# Altium schematic symbol library Audio.SchLib: 119 symbols (part 1 of 2)
Pins are listed as number, name and electrical type; pins without a type are passive.

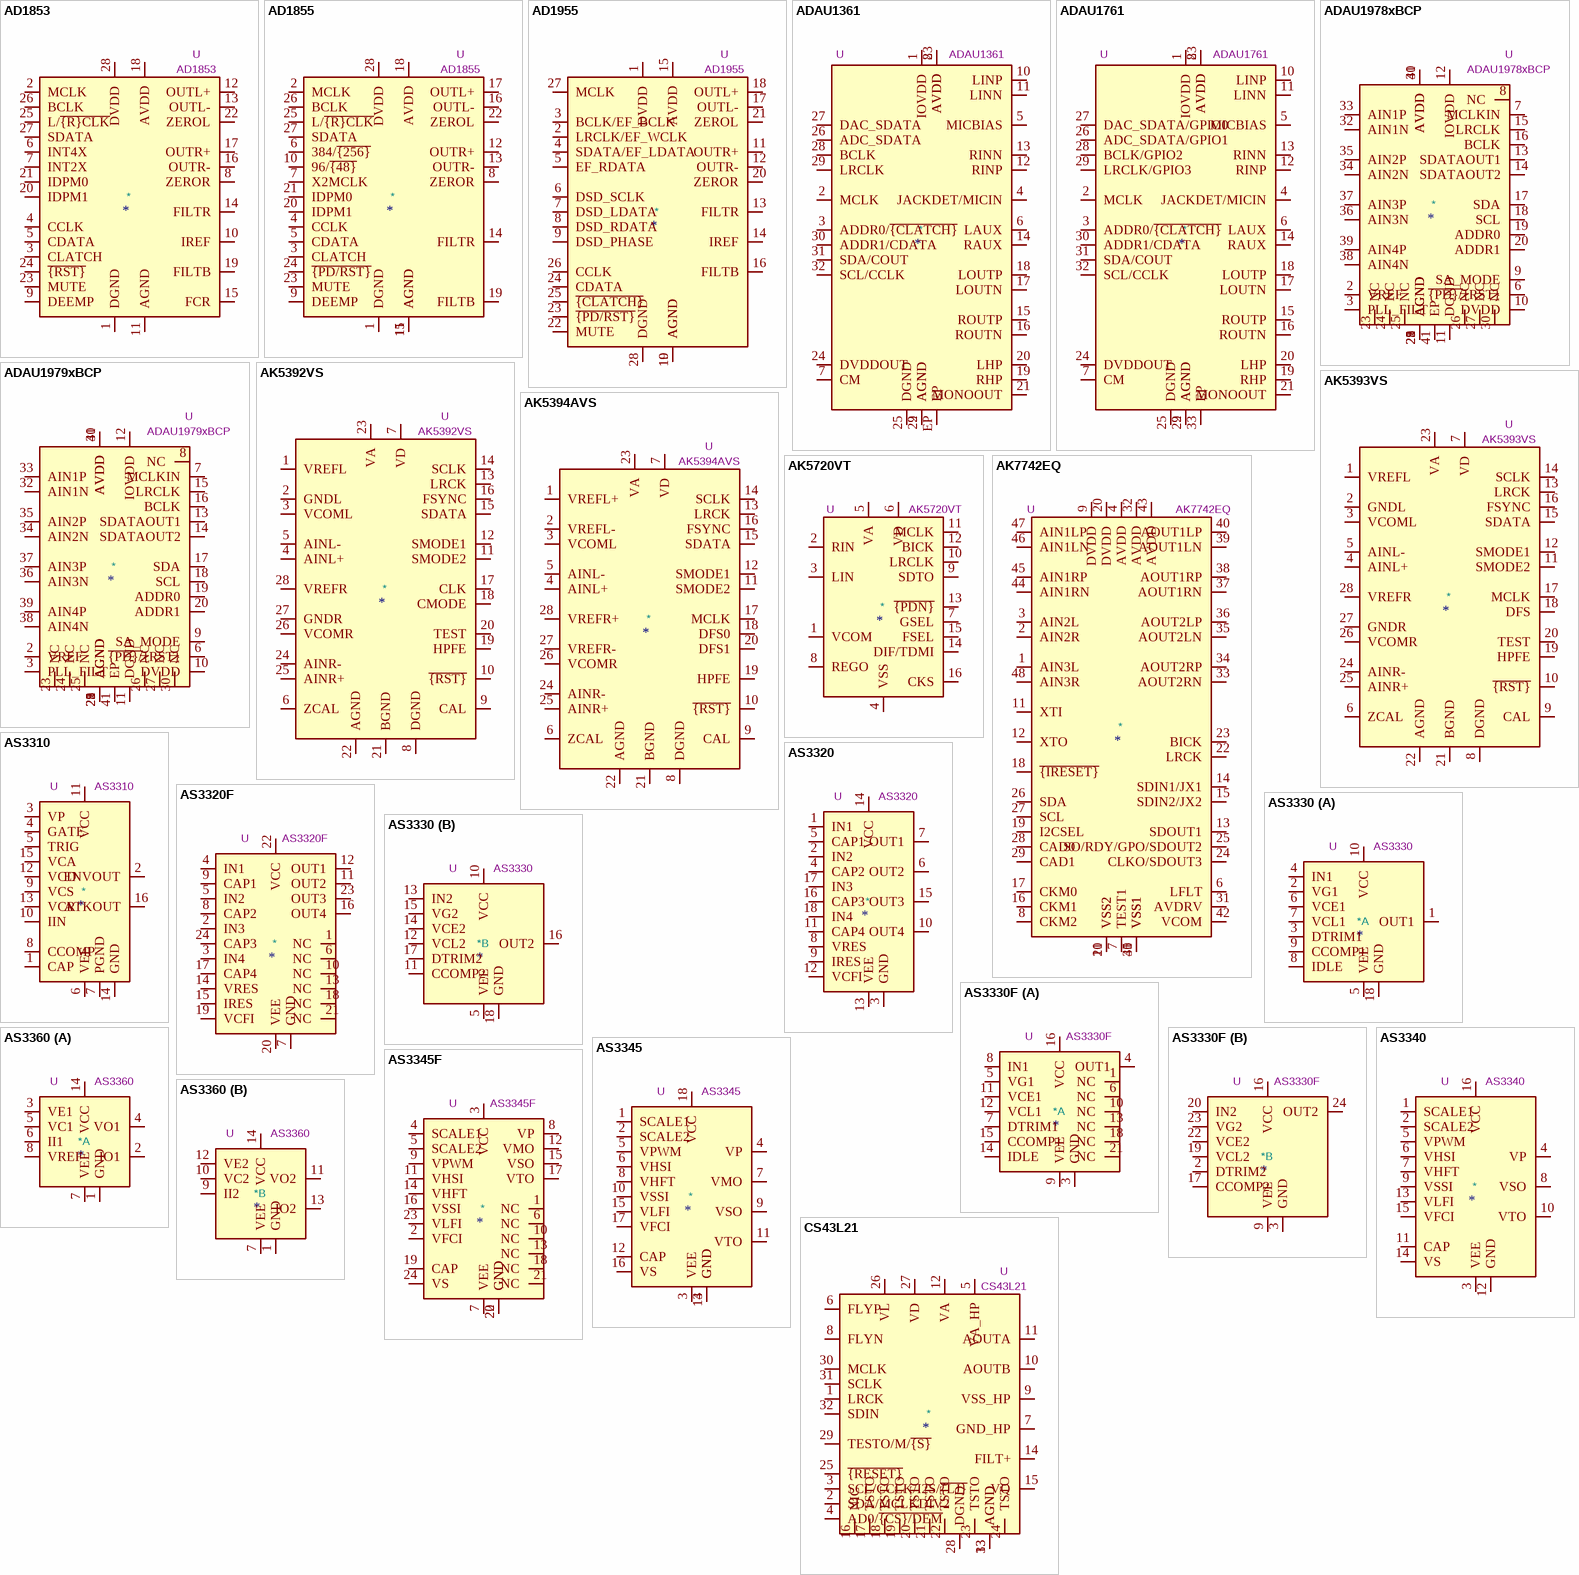
[diagram p0: symbols AD1853 to CS43L21]

## AD1853
designator *  value AD1853  Reference: U
Stereo, 24-Bit, 192 kHz, Multibit Sigma-Delta DAC, SSOP-28; ki_keywords: audio dac 2ch 24bit 192kHz; ki_fp_filters: SSOP*5.3x10.2mm*P0.65mm*; Footprint: Package_SO:SSOP-28_5.3x10.2mm_P0.65mm; Datasheet: https://www.analog.com/media/en/technical-documentation/data-sheets/AD1853.pdf; Description_: Stereo, 24-Bit, 192 kHz, Multibit Sigma-Delta DAC, SSOP-28
pins: 1 DGND, 2 MCLK, 3 CLATCH, 4 CCLK, 5 CDATA, 6 INT4X, 7 INT2X, 8 ZEROR, 9 DEEMP, 10 IREF, 11 AGND, 12 OUTL+, 13 OUTL-, 14 FILTR, 15 FCR, 16 OUTR-, 17 OUTR+, 18 AVDD, 19 FILTB, 20 IDPM1, 21 IDPM0, 22 ZEROL, 23 MUTE, 24 ~{{RST}}, 25 L/~{{R}CLK}, 26 BCLK, 27 SDATA, 28 DVDD

## AD1855
designator *  value AD1855  Reference: U
Stereo, 96 kHz, Multibit Sigma-Delta DAC, SSOP-28; ki_keywords: audio dac 2ch 24bit 96kHz; ki_fp_filters: SSOP*5.3x10.2mm*P0.65mm*; Footprint: Package_SO:SSOP-28_5.3x10.2mm_P0.65mm; Datasheet: https://www.analog.com/media/en/technical-documentation/data-sheets/AD1855.pdf; Description_: Stereo, 96 kHz, Multibit Sigma-Delta DAC, SSOP-28
pins: 1 DGND, 2 MCLK, 3 CLATCH, 4 CCLK, 5 CDATA, 6 384/~{{256}}, 7 X2MCLK, 8 ZEROR, 9 DEEMP, 10 96/~{{48}}, 11 AGND, 12 OUTR+, 13 OUTR-, 14 FILTR, 15 AGND, 16 OUTL-, 17 OUTL+, 18 AVDD, 19 FILTB, 20 IDPM1, 21 IDPM0, 22 ZEROL, 23 MUTE, 24 ~{{PD/RST}}, 25 L/~{{R}CLK}, 26 BCLK, 27 SDATA, 28 DVDD

## AD1955
designator *  value AD1955  Reference: U
High Performance Multibit Sigma-Delta DAC with SACD Playback, SSOP-28; ki_keywords: audio dac 2ch 24bit 192kHz; ki_fp_filters: SSOP*5.3x10.2mm*P0.65mm*; Footprint: Package_SO:SSOP-28_5.3x10.2mm_P0.65mm; Datasheet: https://www.analog.com/media/en/technical-documentation/data-sheets/AD1955.pdf; Description_: High Performance Multibit Sigma-Delta DAC with SACD Playback, SSOP-28
pins: 1 DVDD, 2 LRCLK/EF_WCLK, 3 BCLK/EF_BCLK, 4 SDATA/EF_LDATA, 5 EF_RDATA, 6 DSD_SCLK, 7 DSD_LDATA, 8 DSD_RDATA, 9 DSD_PHASE, 10 AGND, 11 OUTR+, 12 OUTR-, 13 FILTR, 14 IREF, 15 AVDD, 16 FILTB, 17 OUTL-, 18 OUTL+, 19 AGND, 20 ZEROR, 21 ZEROL, 22 MUTE, 23 ~{{PD/RST}}, 24 CDATA, 25 ~{{CLATCH}}, 26 CCLK, 27 MCLK, 28 DGND

## ADAU1361
designator *  value ADAU1361  Reference: U
Stereo, Low Power, 96 kHz, 24-bit Audio Codec with Integrated PLL, VQFN-32 (LFCSP-32); ki_keywords: ADC DAC PGA I2S TDM I2C SPI; ki_fp_filters: *5x5mm*P0.5mm*EP3.5x3.5mm*; Footprint: Package_CSP:LFCSP-32-1EP_5x5mm_P0.5mm_EP3.5x3.5mm_ThermalVias; Datasheet: https://www.analog.com/media/en/technical-documentation/data-sheets/ADAU1361.pdf; Description_: Stereo, Low Power, 96 kHz, 24-bit Audio Codec with Integrated PLL, VQFN-32 (LFCSP-32)
pins: 1 IOVDD, 2 MCLK, 3 ADDR0/~{{CLATCH}}, 4 JACKDET/MICIN, 5 MICBIAS, 6 LAUX, 7 CM, 8 AVDD, 9 AGND, 10 LINP, 11 LINN, 12 RINP, 13 RINN, 14 RAUX, 15 ROUTP, 16 ROUTN, 17 LOUTN, 18 LOUTP, 19 RHP, 20 LHP, 21 MONOOUT, 22 AGND, 23 AVDD, 24 DVDDOUT, 25 DGND, 26 ADC_SDATA, 27 DAC_SDATA, 28 BCLK, 29 LRCLK, 30 ADDR1/CDATA, 31 SDA/COUT, 32 SCL/CCLK, EP

## ADAU1761
designator *  value ADAU1761  Reference: U
SigmaDSP Stereo, Low Power, 96 kHz, 24-bit Audio Codec with Integrated PLL, VQFN-32 (LFCSP-32); ki_keywords: DSP GPIO ADC DAC PGA I2S TDM I2C SPI; ki_fp_filters: *5x5mm*P0.5mm*EP3.5x3.5mm*; Footprint: Package_CSP:LFCSP-32-1EP_5x5mm_P0.5mm_EP3.5x3.5mm_ThermalVias; Datasheet: https://www.analog.com/media/en/technical-documentation/data-sheets/ADAU1761.pdf; Description_: SigmaDSP Stereo, Low Power, 96 kHz, 24-bit Audio Codec with Integrated PLL, VQFN-32 (LFCSP-32)
pins: 1 IOVDD, 2 MCLK, 3 ADDR0/~{{CLATCH}}, 4 JACKDET/MICIN, 5 MICBIAS, 6 LAUX, 7 CM, 8 AVDD, 9 AGND, 10 LINP, 11 LINN, 12 RINP, 13 RINN, 14 RAUX, 15 ROUTP, 16 ROUTN, 17 LOUTN, 18 LOUTP, 19 RHP, 20 LHP, 21 MONOOUT, 22 AGND, 23 AVDD, 24 DVDDOUT, 25 DGND, 26 ADC_SDATA/GPIO1, 27 DAC_SDATA/GPIO0, 28 BCLK/GPIO2, 29 LRCLK/GPIO3, 30 ADDR1/CDATA, 31 SDA/COUT, 32 SCL/CCLK, 33 EP

## ADAU1978xBCP
designator *  value ADAU1978xBCP  Reference: U
Quad Analog-to-Digital Converter, 2Vrms differential inputs, LFCSP-40; ki_keywords: Audio ADC I2S TDM; ki_fp_filters: LFCSP*1EP*6x6mm*P0.5mm*EP3.9x3.9mm*; Footprint: Package_CSP:LFCSP-40-1EP_6x6mm_P0.5mm_EP3.9x3.9mm; Datasheet: https://www.analog.com/media/en/technical-documentation/data-sheets/ADAU1978.pdf; Description_: Quad Analog-to-Digital Converter, 2Vrms differential inputs, LFCSP-40
pins: 1 AGND, 2 VREF, 3 PLL_FILT, 4 AVDD, 5 AGND, 6 ~{{PD}/}{RST}, 7 MCLKIN, 8 NC, 9 SA_MODE, 10 DVDD, 11 DGND, 12 IOVDD, 13 SDATAOUT1, 14 SDATAOUT2, 15 LRCLK, 16 BCLK, 17 SDA, 18 SCL, 19 ADDR0, 20 ADDR1, 21 AGND, 22 AGND, 23 NC, 24 NC, 25 NC, 26 NC, 27 NC, 28 AGND, 29 AGND, 30 NC, 31 AVDD, 32 AIN1N, 33 AIN1P, 34 AIN2N, 35 AIN2P, 36 AIN3N, 37 AIN3P, 38 AIN4N, 39 AIN4P, 40 AVDD, 41 EP

## ADAU1979xBCP
designator *  value ADAU1979xBCP  Reference: U
Quad Analog-to-Digital Converter, 4.5Vrms differential inputs, LFCSP-40; ki_keywords: Audio ADC I2S TDM; ki_fp_filters: LFCSP*1EP*6x6mm*P0.5mm*EP3.9x3.9mm*; Footprint: Package_CSP:LFCSP-40-1EP_6x6mm_P0.5mm_EP3.9x3.9mm; Datasheet: https://www.analog.com/media/en/technical-documentation/data-sheets/ADAU1979.pdf; Description_: Quad Analog-to-Digital Converter, 4.5Vrms differential inputs, LFCSP-40
pins: 1 AGND, 2 VREF, 3 PLL_FILT, 4 AVDD, 5 AGND, 6 ~{{PD}/}{RST}, 7 MCLKIN, 8 NC, 9 SA_MODE, 10 DVDD, 11 DGND, 12 IOVDD, 13 SDATAOUT1, 14 SDATAOUT2, 15 LRCLK, 16 BCLK, 17 SDA, 18 SCL, 19 ADDR0, 20 ADDR1, 21 AGND, 22 AGND, 23 NC, 24 NC, 25 NC, 26 NC, 27 NC, 28 AGND, 29 AGND, 30 NC, 31 AVDD, 32 AIN1N, 33 AIN1P, 34 AIN2N, 35 AIN2P, 36 AIN3N, 37 AIN3P, 38 AIN4N, 39 AIN4P, 40 AVDD, 41 EP

## AK5392VS
designator *  value AK5392VS  Reference: U
Enhanced Dual Bit Sigma-Delta 24Bit ADC, SOIC-28; ki_keywords: audio adc 2ch 24bit; ki_fp_filters: SOIC*7.5x18.7mm*P1.27mm*; Footprint: Package_SO:SOIC-28W_7.5x18.7mm_P1.27mm; Datasheet: https://media.digikey.com/pdf/Data%20Sheets/AKM%20Semiconductor%20Inc.%20PDFs/AK5392.pdf; Description_: Enhanced Dual Bit Sigma-Delta 24Bit ADC, SOIC-28
pins: 1 VREFL, 2 GNDL, 3 VCOML, 4 AINL+, 5 AINL-, 6 ZCAL, 7 VD, 8 DGND, 9 CAL, 10 ~{{RST}}, 11 SMODE2, 12 SMODE1, 13 LRCK, 14 SCLK, 15 SDATA, 16 FSYNC, 17 CLK, 18 CMODE, 19 HPFE, 20 TEST, 21 BGND, 22 AGND, 23 VA, 24 AINR-, 25 AINR+, 26 VCOMR, 27 GNDR, 28 VREFR

## AK5393VS
designator *  value AK5393VS  Reference: U
Enhanced Dual Bit Sigma-Delta 96kHz 24-Bit ADC, SOIC-28; ki_keywords: audio adc 2ch 24bit 96kHz; ki_fp_filters: SOIC*7.5x18.7mm*P1.27mm*; Footprint: Package_SO:SOIC-28W_7.5x18.7mm_P1.27mm; Datasheet: https://www.akm.com/akm/en/file/datasheet/AK5393VS.pdf; Description_: Enhanced Dual Bit Sigma-Delta 96kHz 24-Bit ADC, SOIC-28
pins: 1 VREFL, 2 GNDL, 3 VCOML, 4 AINL+, 5 AINL-, 6 ZCAL, 7 VD, 8 DGND, 9 CAL, 10 ~{{RST}}, 11 SMODE2, 12 SMODE1, 13 LRCK, 14 SCLK, 15 SDATA, 16 FSYNC, 17 MCLK, 18 DFS, 19 HPFE, 20 TEST, 21 BGND, 22 AGND, 23 VA, 24 AINR-, 25 AINR+, 26 VCOMR, 27 GNDR, 28 VREFR

## AK5394AVS
designator *  value AK5394AVS  Reference: U
Super High Performance 192kHz 24-Bit Sigma-Delta ADC, SOIC-28; ki_keywords: audio adc 2ch 24bit 192kHz; ki_fp_filters: SOIC*7.5x18.7mm*P1.27mm*; Footprint: Package_SO:SOIC-28W_7.5x18.7mm_P1.27mm; Datasheet: http://www.akm.com/akm/en/file/datasheet/AK5394AVS.pdf; Description_: Super High Performance 192kHz 24-Bit Sigma-Delta ADC, SOIC-28
pins: 1 VREFL+, 2 VREFL-, 3 VCOML, 4 AINL+, 5 AINL-, 6 ZCAL, 7 VD, 8 DGND, 9 CAL, 10 ~{{RST}}, 11 SMODE2, 12 SMODE1, 13 LRCK, 14 SCLK, 15 SDATA, 16 FSYNC, 17 MCLK, 18 DFS0, 19 HPFE, 20 DFS1, 21 BGND, 22 AGND, 23 VA, 24 AINR-, 25 AINR+, 26 VCOMR, 27 VREFR-, 28 VREFR+

## AK5720VT
designator *  value AK5720VT  Reference: U
Stereo, 96kHz, 24-Bit, Delta-Sigma ADC, TSSOP-16; ki_keywords: audio adc 2ch 24bit 96kHz I2S MSB TDM; ki_fp_filters: TSSOP*4.4x5mm*P0.65mm*; Footprint: Package_SO:TSSOP-16_4.4x5mm_P0.65mm; Datasheet: https://www.akm.com/akm/en/file/datasheet/AK5720VT.pdf; Description_: Stereo, 96kHz, 24-Bit, Delta-Sigma ADC, TSSOP-16
pins: 1 VCOM, 2 RIN, 3 LIN, 4 VSS, 5 VA, 6 VD, 7 GSEL, 8 REGO, 9 SDTO, 10 LRCLK, 11 MCLK, 12 BICK, 13 ~{{PDN}}, 14 DIF/TDMI, 15 FSEL, 16 CKS

## AK7742EQ
designator *  value AK7742EQ  Reference: U
24bit 2ch ADC + 24bit 4ch DAC with Audio DSP, LQFP-48; ki_keywords: audio adc 2ch dac 4ch dsp; ki_fp_filters: LQFP*7x7mm*P0.5mm*; Footprint: Package_QFP:LQFP-48_7x7mm_P0.5mm; Datasheet: https://www.akm.com/akm/en/file/datasheet/AK7742EQ.pdf; Description_: 24bit 2ch ADC + 24bit 4ch DAC with Audio DSP, LQFP-48
pins: 1 AIN3L, 2 AIN2R, 3 AIN2L, 4 AVDD, 5 VSS1, 6 LFLT, 7 TEST1, 8 CKM2, 9 DVDD, 10 VSS2, 11 XTI, 12 XTO, 13 SDOUT1, 14 SDIN1/JX1, 15 SDIN2/JX2, 16 CKM1, 17 CKM0, 18 ~{{IRESET}}, 19 I2CSEL, 20 DVDD, 21 VSS2, 22 LRCK, 23 BICK, 24 CLKO/SDOUT3, 25 SO/RDY/GPO/SDOUT2, 26 SDA, 27 SCL, 28 CAD0, 29 CAD1, 30 VSS1, 31 AVDRV, 32 AVDD, 33 AOUT2RN, 34 AOUT2RP, 35 AOUT2LN, 36 AOUT2LP, 37 AOUT1RN, 38 AOUT1RP, 39 AOUT1LN, 40 AOUT1LP, 41 VSS1, 42 VCOM, 43 AVDD, 44 AIN1RN, 45 AIN1RP, 46 AIN1LN, 47 AIN1LP, 48 AIN3R

## AS3310
designator *  value AS3310  Reference: U
ADSR Voltage Controlled Envelope Generator, DIP-16/SOIC-16; ki_keywords: VCEG CEM3310 ALFA; ki_fp_filters: DIP*W7.62mm* SOIC*3.9x9.9mm*P1.27mm*; Datasheet: http://www.alfarzpp.lv/eng/sc/AS3310.pdf; Description_: ADSR Voltage Controlled Envelope Generator, DIP-16/SOIC-16
pins: 1 CAP, 2 ENVOUT, 3 VP, 4 GATE, 5 TRIG, 6 VEE, 7 PGND, 8 CCOMP, 9 VCS, 10 IIN, 11 VCC, 12 VCD, 13 VCR, 14 GND, 15 VCA, 16 ATKOUT

## AS3320
designator *  value AS3320  Reference: U
Voltage Controlled Filter (VCF), DIP-18; ki_keywords: VCF CEM3320 ALFA; ki_fp_filters: DIP*W7.62mm*; Footprint: Package_DIP:DIP-18_W7.62mm; Datasheet: http://www.alfarzpp.lv/eng/sc/AS3320.pdf; Description_: Voltage Controlled Filter (VCF), DIP-18
pins: 1 IN1, 2 IN2, 3 GND, 4 CAP2, 5 CAP1, 6 OUT2, 7 OUT1, 8 VRES, 9 IRES, 10 OUT4, 11 CAP4, 12 VCFI, 13 VEE, 14 VCC, 15 OUT3, 16 CAP3, 17 IN3, 18 IN4

## AS3320F
designator *  value AS3320F  Reference: U
Voltage Controlled Filter (VCF), QFN-24; ki_keywords: VCF CEM3320 ALFA; ki_fp_filters: QFN*1EP*4x4mm*P0.5mm*; Footprint: Package_DFN_QFN:QFN-24-1EP_4x4mm_P0.5mm_EP2.7x2.7mm; Datasheet: http://www.alfarzpp.lv/eng/sc/AS3320.pdf; Description_: Voltage Controlled Filter (VCF), QFN-24
pins: 1 NC, 2 IN3, 3 IN4, 4 IN1, 5 IN2, 6 NC, 7 GND, 8 CAP2, 9 CAP1, 10 NC, 11 OUT2, 12 OUT1, 13 NC, 14 VRES, 15 IRES, 16 OUT4, 17 CAP4, 18 NC, 19 VCFI, 20 VEE, 21 NC, 22 VCC, 23 OUT3, 24 CAP3

## AS3330
designator *  value AS3330  Reference: U
Dual Voltage Controlled Amplifier (VCA), DIP-18; ki_keywords: VCA CEM3330 ALFA; ki_fp_filters: DIP*W7.62mm*; Footprint: Package_DIP:DIP-18_W7.62mm; Datasheet: http://www.alfarzpp.lv/eng/sc/AS3330.pdf; Description_: Dual Voltage Controlled Amplifier (VCA), DIP-18
part A pins: 1 OUT1, 2 VG1, 3 DTRIM1, 4 IN1, 5 VEE, 6 VCE1, 7 VCL1, 8 IDLE, 9 CCOMP1, 10 VCC, 18 GND
part B pins: 5 VEE, 10 VCC, 11 CCOMP2, 12 VCL2, 13 IN2, 14 VCE2, 15 VG2, 16 OUT2, 17 DTRIM2, 18 GND

## AS3330F
designator *  value AS3330F  Reference: U
Dual Voltage Controlled Amplifier (VCA), QFN-24; ki_keywords: VCA CEM3330 ALFA; ki_fp_filters: QFN*1EP*4x4mm*P0.5mm*; Footprint: Package_DFN_QFN:QFN-24-1EP_4x4mm_P0.5mm_EP2.7x2.7mm; Datasheet: http://www.alfarzpp.lv/eng/sc/AS3330.pdf; Description_: Dual Voltage Controlled Amplifier (VCA), QFN-24
part A pins: 1 NC, 3 GND, 4 OUT1, 5 VG1, 6 NC, 7 DTRIM1, 8 IN1, 9 VEE, 10 NC, 11 VCE1, 12 VCL1, 13 NC, 14 IDLE, 15 CCOMP1, 16 VCC, 18 NC, 21 NC
part B pins: 2 DTRIM2, 3 GND, 9 VEE, 16 VCC, 17 CCOMP2, 19 VCL2, 20 IN2, 22 VCE2, 23 VG2, 24 OUT2

## AS3340
designator *  value AS3340  Reference: U
Voltage Controlled Oscillator (VCO), DIP-16/SOIC-16; ki_keywords: VCO CEM340 ALFA; ki_fp_filters: DIP*W7.62mm* SOIC*3.9x9.9mm*P1.27mm*; Datasheet: http://www.alfarzpp.lv/eng/sc/AS3340.pdf; Description_: Voltage Controlled Oscillator (VCO), DIP-16/SOIC-16
pins: 1 SCALE1, 2 SCALE2, 3 VEE, 4 VP, 5 VPWM, 6 VHSI, 7 VHFT, 8 VSO, 9 VSSI, 10 VTO, 11 CAP, 12 GND, 13 VLFI, 14 VS, 15 VFCI, 16 VCC

## AS3345
designator *  value AS3345  Reference: U
Voltage Controlled Oscillator (VCO), DIP-18; ki_keywords: VCO CEM345 ALFA; ki_fp_filters: DIP*W7.62mm*; Footprint: Package_DIP:DIP-18_W7.62mm; Datasheet: http://www.alfarzpp.lv/eng/sc/AS3340.pdf; Description_: Voltage Controlled Oscillator (VCO), DIP-18
pins: 1 SCALE1, 2 SCALE2, 3 VEE, 4 VP, 5 VPWM, 6 VHSI, 7 VMO, 8 VHFT, 9 VSO, 10 VSSI, 11 VTO, 12 CAP, 13 GND, 14 GND, 15 VLFI, 16 VS, 17 VFCI, 18 VCC

## AS3345F
designator *  value AS3345F  Reference: U
Voltage Controlled Oscillator (VCO), QFN-24; ki_keywords: VCO CEM345 ALFA; ki_fp_filters: QFN*1EP*4x4mm*P0.5mm*; Footprint: Package_DFN_QFN:QFN-24-1EP_4x4mm_P0.5mm_EP2.7x2.7mm; Datasheet: http://www.alfarzpp.lv/eng/sc/AS3340.pdf; Description_: Voltage Controlled Oscillator (VCO), QFN-24
pins: 1 NC, 2 VFCI, 3 VCC, 4 SCALE1, 5 SCALE2, 6 NC, 7 VEE, 8 VP, 9 VPWM, 10 NC, 11 VHSI, 12 VMO, 13 NC, 14 VHFT, 15 VSO, 16 VSSI, 17 VTO, 18 NC, 19 CAP, 20 GND, 21 NC, 22 GND, 23 VLFI, 24 VS

## AS3360
designator *  value AS3360  Reference: U
Dual Voltage Controlled Amplifier (VCA), DIP-14/SOIC-14; ki_keywords: VCA CEM3360 ALFA; ki_fp_filters: DIP*W7.62mm* SOIC*3.9x8.7mm*P1.27mm*; Datasheet: http://www.alfarzpp.lv/eng/sc/AS3360.pdf; Description_: Dual Voltage Controlled Amplifier (VCA), DIP-14/SOIC-14
part A pins: 1 GND, 2 IO1, 3 VE1, 4 VO1, 5 VC1, 6 II1, 7 VEE, 8 VREF, 14 VCC
part B pins: 1 GND, 7 VEE, 9 II2, 10 VC2, 11 VO2, 12 VE2, 13 IO2, 14 VCC

## CS43L21
designator *  value CS43L21  Reference: U
Low-Power, Stereo Digital-to-Analog Converter, QFN-32; ki_keywords: audio dac 2ch 24bit 96kHz; ki_fp_filters: QFN*5x5mm*P0.5mm*; Footprint: Package_DFN_QFN:QFN-32-1EP_5x5mm_P0.5mm_EP3.45x3.45mm; Datasheet: https://d3uzseaevmutz1.cloudfront.net/pubs/proDatasheet/CS43L21_F1.pdf; Description_: Low-Power, Stereo Digital-to-Analog Converter, QFN-32
pins: 1 LRCK, 2 SDA/MCLKDIV2, 3 SCL/CCLK/I2S/~{{LJ}}, 4 AD0/~{{CS}/DEM}, 5 VA_HP, 6 FLYP, 7 GND_HP, 8 FLYN, 9 VSS_HP, 10 AOUTB, 11 AOUTA, 12 VA, 13 AGND, 14 FILT+, 15 VQ, 16 NIC, 17 TSTO, 18 TSTO, 19 TSTO, 20 TSTO, 21 TSTO, 22 TSTO, 23 TSTO, 24 TSTO, 25 ~{{RESET}}, 26 VL, 27 VD, 28 DGND, 29 TESTO/M/~{{S}}, 30 MCLK, 31 SCLK, 32 SDIN, 33 AGND

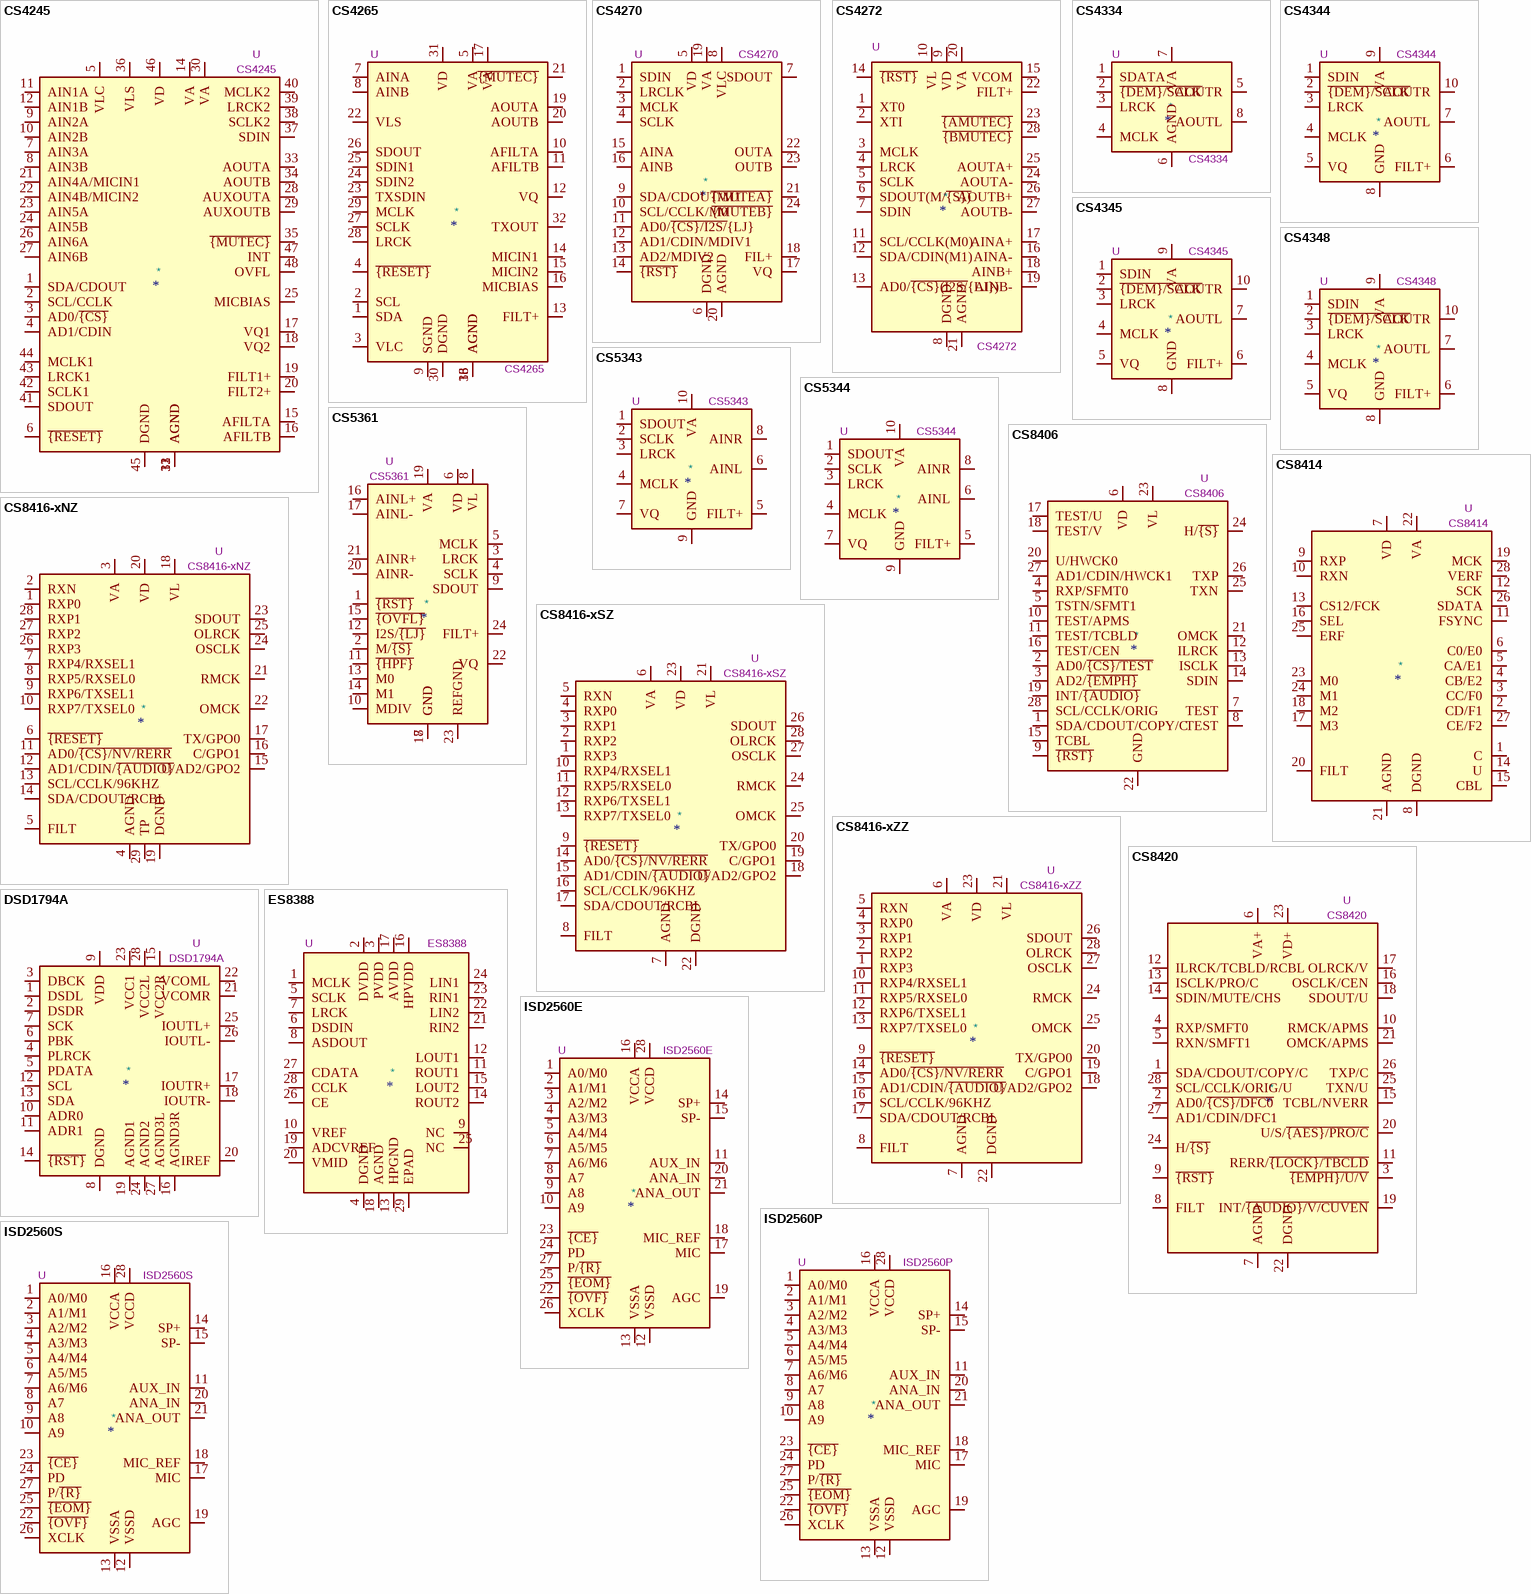
[diagram p1: symbols CS4245 to ISD2560S]

## CS4245
designator *  value CS4245  Reference: U
104 dB, 24-Bit, 192 kHz Stereo Audio CODEC, LQFP-48; ki_keywords: audio codec 2ch 24bit 192kHz; ki_fp_filters: LQFP*7x7mm*P0.5mm*; Footprint: Package_QFP:LQFP-48_7x7mm_P0.5mm; Datasheet: https://d3uzseaevmutz1.cloudfront.net/pubs/proDatasheet/CS4245_F3.pdf; Description_: 104 dB, 24-Bit, 192 kHz Stereo Audio CODEC, LQFP-48
pins: 1 SDA/CDOUT, 2 SCL/CCLK, 3 AD0/~{{CS}}, 4 AD1/CDIN, 5 VLC, 6 ~{{RESET}}, 7 AIN3A, 8 AIN3B, 9 AIN2A, 10 AIN2B, 11 AIN1A, 12 AIN1B, 13 AGND, 14 VA, 15 AFILTA, 16 AFILTB, 17 VQ1, 18 VQ2, 19 FILT1+, 20 FILT2+, 21 AIN4A/MICIN1, 22 AIN4B/MICIN2, 23 AIN5A, 24 AIN5B, 25 MICBIAS, 26 AIN6A, 27 AIN6B, 28 AUXOUTA, 29 AUXOUTB, 30 VA, 31 AGND, 32 AGND, 33 AOUTA, 34 AOUTB, 35 ~{{MUTEC}}, 36 VLS, 37 SDIN, 38 SCLK2, 39 LRCK2, 40 MCLK2, 41 SDOUT, 42 SCLK1, 43 LRCK1, 44 MCLK1, 45 DGND, 46 VD, 47 INT, 48 OVFL

## CS4265
designator *  value CS4265  Reference: U
104 dB, 24-Bit, 192 kHz Stereo Audio CODEC, QFN-32; ki_keywords: Audio codec 24bit 192khz stereo; ki_fp_filters: QFN*1EP*5x5mm*0.5mm*; Footprint: Package_DFN_QFN:QFN-32-1EP_5x5mm_P0.5mm_EP3.6x3.6mm; Datasheet: https://statics.cirrus.com/pubs/proDatasheet/CS4265_F5.pdf; Description_: 104 dB, 24-Bit, 192 kHz Stereo Audio CODEC, QFN-32
pins: 1 SDA, 2 SCL, 3 VLC, 4 ~{{RESET}}, 5 VA, 6 AGND, 7 AINA, 8 AINB, 9 SGND, 10 AFILTA, 11 AFILTB, 12 VQ, 13 FILT+, 14 MICIN1, 15 MICIN2, 16 MICBIAS, 17 VA, 18 AGND, 19 AOUTA, 20 AOUTB, 21 ~{{MUTEC}}, 22 VLS, 23 TXSDIN, 24 SDIN2, 25 SDIN1, 26 SDOUT, 27 SCLK, 28 LRCK, 29 MCLK, 30 DGND, 31 VD, 32 TXOUT, 33 AGND

## CS4270
designator *  value CS4270  Reference: U
24-Bit, 192-kHz Stereo Audio CODEC, TSSOP-24; ki_fp_filters: TSSOP*4.4x7.8mm*P0.65mm*; Footprint: Package_SO:TSSOP-24_4.4x7.8mm_P0.65mm; Datasheet: https://statics.cirrus.com/pubs/proDatasheet/CS4270_F1.pdf; Description_: 24-Bit, 192-kHz Stereo Audio CODEC, TSSOP-24; ki_keywords: Audio Codec
pins: 1 SDIN, 2 LRCLK, 3 MCLK, 4 SCLK, 5 VD, 6 DGND, 7 SDOUT, 8 VLC, 9 SDA/CDOUT/M1, 10 SCL/CCLK/M0, 11 AD0/~{{CS}/I2S/}{LJ}, 12 AD1/CDIN/MDIV1, 13 AD2/MDIV2, 14 ~{{RST}}, 15 AINA, 16 AINB, 17 VQ, 18 FIL+, 19 VA, 20 AGND, 21 ~{{MUTEA}}, 22 OUTA, 23 OUTB, 24 ~{{MUTEB}}

## CS4272
designator *  value CS4272  Reference: U
24-Bit, 192 kHz Stereo Audio CODEC, TSSOP-28; ki_keywords: stereo 2ch audio codec i2s 24bit 192kHz; ki_fp_filters: TSSOP*4.4x9.7mm*P0.65mm*; Footprint: Package_SO:TSSOP-28_4.4x9.7mm_P0.65mm; Datasheet: https://statics.cirrus.com/pubs/proDatasheet/CS4272_F1.pdf; Description_: 24-Bit, 192 kHz Stereo Audio CODEC, TSSOP-28
pins: 1 XT0, 2 XTI, 3 MCLK, 4 LRCK, 5 SCLK, 6 SDOUT(M/~{{S})}, 7 SDIN, 8 DGND, 9 VD, 10 VL, 11 SCL/CCLK(M0), 12 SDA/CDIN(M1), 13 AD0/~{{CS}(I2S/}{LJ}), 14 ~{{RST}}, 15 VCOM, 16 AINA-, 17 AINA+, 18 AINB+, 19 AINB-, 20 VA, 21 AGND, 22 FILT+, 23 ~{{AMUTEC}}, 24 AOUTA-, 25 AOUTA+, 26 AOUTB+, 27 AOUTB-, 28 ~{{BMUTEC}}

## CS4334
designator *  value CS4334  Reference: U
24-Bit, 96kHz Stereo D/A Converter, SOIC-8; ki_keywords: stereo 2ch audio codec i2s 24bit 96kHz; ki_fp_filters: SOIC*3.9x4.9mm*P1.27mm*; Footprint: Package_SO:SOIC-8_3.9x4.9mm_P1.27mm; Datasheet: https://statics.cirrus.com/pubs/proDatasheet/CS4334-5-8-9_F7.pdf; Description_: 24-Bit, 96kHz Stereo D/A Converter, SOIC-8
pins: 1 SDATA, 2 ~{{DEM}/SCLK}, 3 LRCK, 4 MCLK, 5 AOUTR, 6 AGND, 7 VA, 8 AOUTL

## CS4344
designator *  value CS4344  Reference: U
16 to 24-Bit, 192 kHz Stereo D/A Converter, I2S Audio Format, TSSOP-10; ki_keywords: stereo 2ch audio codec; ki_fp_filters: TSSOP*3x3mm*P0.5mm*; Footprint: Package_SO:TSSOP-10_3x3mm_P0.5mm; Datasheet: https://statics.cirrus.com/pubs/proDatasheet/CS4344-45-48_F2.pdf; Description_: 16 to 24-Bit, 192 kHz Stereo D/A Converter, I2S Audio Format, TSSOP-10
pins: 1 SDIN, 2 ~{{DEM}/SCLK}, 3 LRCK, 4 MCLK, 5 VQ, 6 FILT+, 7 AOUTL, 8 GND, 9 VA, 10 AOUTR

## CS4345
designator *  value CS4345  Reference: U
16 to 24-Bit, 192 kHz Stereo D/A Converter, Left-Justified Audio Format, TSSOP-10; ki_keywords: stereo 2ch audio codec; ki_fp_filters: TSSOP*3x3mm*P0.5mm*; Footprint: Package_SO:TSSOP-10_3x3mm_P0.5mm; Datasheet: https://statics.cirrus.com/pubs/proDatasheet/CS4344-45-48_F2.pdf; Description_: 16 to 24-Bit, 192 kHz Stereo D/A Converter, Left-Justified Audio Format, TSSOP-10
pins: 1 SDIN, 2 ~{{DEM}/SCLK}, 3 LRCK, 4 MCLK, 5 VQ, 6 FILT+, 7 AOUTL, 8 GND, 9 VA, 10 AOUTR

## CS4348
designator *  value CS4348  Reference: U
16-Bit, 192 kHz Stereo D/A Converter, Right-Justified Audio Format, TSSOP-10; ki_keywords: stereo 2ch audio codec; ki_fp_filters: TSSOP*3x3mm*P0.5mm*; Footprint: Package_SO:TSSOP-10_3x3mm_P0.5mm; Datasheet: https://statics.cirrus.com/pubs/proDatasheet/CS4344-45-48_F2.pdf; Description_: 16-Bit, 192 kHz Stereo D/A Converter, Right-Justified Audio Format, TSSOP-10
pins: 1 SDIN, 2 ~{{DEM}/SCLK}, 3 LRCK, 4 MCLK, 5 VQ, 6 FILT+, 7 AOUTL, 8 GND, 9 VA, 10 AOUTR

## CS5343
designator *  value CS5343  Reference: U
98 dB, 96 kHz, 24bit Stereo Audio A/D Converter, I2S Audio Format, TSSOP-10; ki_keywords: stereo 2ch audio codec; ki_fp_filters: TSSOP*3x3mm*P0.5mm*; Footprint: Package_SO:TSSOP-10_3x3mm_P0.5mm; Datasheet: https://statics.cirrus.com/pubs/proDatasheet/CS5343-44_F5.pdf; Description_: 98 dB, 96 kHz, 24bit Stereo Audio A/D Converter, I2S Audio Format, TSSOP-10
pins: 1 SDOUT, 2 SCLK, 3 LRCK, 4 MCLK, 5 FILT+, 6 AINL, 7 VQ, 8 AINR, 9 GND, 10 VA

## CS5344
designator *  value CS5344  Reference: U
98 dB, 96 kHz, 24bit Stereo Audio A/D Converter, Left-Justified Audio Format, TSSOP-10; ki_keywords: stereo 2ch audio codec; ki_fp_filters: TSSOP*3x3mm*P0.5mm*; Footprint: Package_SO:TSSOP-10_3x3mm_P0.5mm; Datasheet: https://statics.cirrus.com/pubs/proDatasheet/CS5343-44_F5.pdf; Description_: 98 dB, 96 kHz, 24bit Stereo Audio A/D Converter, Left-Justified Audio Format, TSSOP-10
pins: 1 SDOUT, 2 SCLK, 3 LRCK, 4 MCLK, 5 FILT+, 6 AINL, 7 VQ, 8 AINR, 9 GND, 10 VA

## CS5361
designator *  value CS5361  Reference: U
114 dB, 192 kHz, Multi-Bit Audio A/D Converter, SOIC-24/TSSOP-24; ki_keywords: audio adc 2ch 24bit 192kHz; ki_fp_filters: SOIC*7.5x15.4mm*P1.27mm* TSSOP*4.4x7.8mm*P0.65mm*; Datasheet: https://d3uzseaevmutz1.cloudfront.net/pubs/proDatasheet/CS5361_F2.pdf; Description_: 114 dB, 192 kHz, Multi-Bit Audio A/D Converter, SOIC-24/TSSOP-24
pins: 1 ~{{RST}}, 2 M/~{{S}}, 3 LRCK, 4 SCLK, 5 MCLK, 6 VD, 7 GND, 8 VL, 9 SDOUT, 10 MDIV, 11 ~{{HPF}}, 12 I2S/~{{LJ}}, 13 M0, 14 M1, 15 ~{{OVFL}}, 16 AINL+, 17 AINL-, 18 GND, 19 VA, 20 AINR-, 21 AINR+, 22 VQ, 23 REFGND, 24 FILT+

## CS8406
designator *  value CS8406  Reference: U
192 kHz Digital Audio Interface Transmitter, SOIC-28/TSSOP-28; ki_keywords: audio digital interface transmitter 192kHz; ki_fp_filters: SOIC*7.5x17.9mm*P1.27mm* TSSOP*4.4x9.7mm*P0.65mm*; Datasheet: https://d3uzseaevmutz1.cloudfront.net/pubs/proDatasheet/CS8406_F6.pdf; Description_: 192 kHz Digital Audio Interface Transmitter, SOIC-28/TSSOP-28
pins: 1 SDA/CDOUT/COPY/C, 2 AD0/~{{CS}/TEST}, 3 AD2/~{{EMPH}}, 4 RXP/SFMT0, 5 TSTN/SFMT1, 6 VD, 7 TEST, 8 TEST, 9 ~{{RST}}, 10 TEST/APMS, 11 TEST/TCBLD, 12 ILRCK, 13 ISCLK, 14 SDIN, 15 TCBL, 16 TEST/CEN, 17 TEST/U, 18 TEST/V, 19 INT/~{{AUDIO}}, 20 U/HWCK0, 21 OMCK, 22 GND, 23 VL, 24 H/~{{S}}, 25 TXN, 26 TXP, 27 AD1/CDIN/HWCK1, 28 SCL/CCLK/ORIG

## CS8414
designator *  value CS8414  Reference: U
96 kHz Digital Audio Receiver, SOIC-28; ki_keywords: audio digital interface receiver; ki_fp_filters: SOIC*7.5x17.9mm*P1.27mm*; Footprint: Package_SO:SOIC-28W_7.5x17.9mm_P1.27mm; Datasheet: http://lampizator.eu/LAMPIZATOR/TRANSPORT/CS8414_receiver.pdf; Description_: 96 kHz Digital Audio Receiver, SOIC-28
pins: 1 C, 2 CD/F1, 3 CC/F0, 4 CB/E2, 5 CA/E1, 6 C0/E0, 7 VD, 8 DGND, 9 RXP, 10 RXN, 11 FSYNC, 12 SCK, 13 CS12/FCK, 14 U, 15 CBL, 16 SEL, 17 M3, 18 M2, 19 MCK, 20 FILT, 21 AGND, 22 VA, 23 M0, 24 M1, 25 ERF, 26 SDATA, 27 CE/F2, 28 VERF

## CS8416-xNZ
designator *  value CS8416-xNZ  Reference: U
192 kHz Digital Audio Interface Receiver, QFN-28; ki_keywords: audio digital interface receiver; ki_fp_filters: QFN*5x5mm*P0.5mm*; Footprint: Package_DFN_QFN:QFN-28-1EP_5x5mm_P0.5mm_EP3.35x3.35mm; Datasheet: https://d3uzseaevmutz1.cloudfront.net/pubs/proDatasheet/CS8416_F3.pdf; Description_: 192 kHz Digital Audio Interface Receiver, QFN-28
pins: 1 RXP0, 2 RXN, 3 VA, 4 AGND, 5 FILT, 6 ~{{RESET}}, 7 RXP4/RXSEL1, 8 RXP5/RXSEL0, 9 RXP6/TXSEL1, 10 RXP7/TXSEL0, 11 AD0/~{{CS}/NV/RERR}, 12 AD1/CDIN/~{{AUDIO}}, 13 SCL/CCLK/96KHZ, 14 SDA/CDOUT/RCBL, 15 U/AD2/GPO2, 16 C/GPO1, 17 TX/GPO0, 18 VL, 19 DGND, 20 VD, 21 RMCK, 22 OMCK, 23 SDOUT, 24 OSCLK, 25 OLRCK, 26 RXP3, 27 RXP2, 28 RXP1, 29 TP

## CS8416-xSZ
designator *  value CS8416-xSZ  Reference: U
192 kHz Digital Audio Interface Receiver, SOIC-28; ki_keywords: audio digital interface receiver; ki_fp_filters: SOIC*7.5x17.9mm*P1.27mm* TSSOP*4.4x9.7mm*P0.65mm*; Datasheet: https://d3uzseaevmutz1.cloudfront.net/pubs/proDatasheet/CS8416_F3.pdf; Description_: 192 kHz Digital Audio Interface Receiver, SOIC-28
pins: 1 RXP3, 2 RXP2, 3 RXP1, 4 RXP0, 5 RXN, 6 VA, 7 AGND, 8 FILT, 9 ~{{RESET}}, 10 RXP4/RXSEL1, 11 RXP5/RXSEL0, 12 RXP6/TXSEL1, 13 RXP7/TXSEL0, 14 AD0/~{{CS}/NV/RERR}, 15 AD1/CDIN/~{{AUDIO}}, 16 SCL/CCLK/96KHZ, 17 SDA/CDOUT/RCBL, 18 U/AD2/GPO2, 19 C/GPO1, 20 TX/GPO0, 21 VL, 22 DGND, 23 VD, 24 RMCK, 25 OMCK, 26 SDOUT, 27 OSCLK, 28 OLRCK

## CS8416-xZZ
designator *  value CS8416-xZZ  Reference: U
192 kHz Digital Audio Interface Receiver, TSSOP-28; ki_keywords: audio digital interface receiver; ki_fp_filters: SOIC*7.5x17.9mm*P1.27mm* TSSOP*4.4x9.7mm*P0.65mm*; Datasheet: https://d3uzseaevmutz1.cloudfront.net/pubs/proDatasheet/CS8416_F3.pdf; Description_: 192 kHz Digital Audio Interface Receiver, TSSOP-28
pins: 1 RXP3, 2 RXP2, 3 RXP1, 4 RXP0, 5 RXN, 6 VA, 7 AGND, 8 FILT, 9 ~{{RESET}}, 10 RXP4/RXSEL1, 11 RXP5/RXSEL0, 12 RXP6/TXSEL1, 13 RXP7/TXSEL0, 14 AD0/~{{CS}/NV/RERR}, 15 AD1/CDIN/~{{AUDIO}}, 16 SCL/CCLK/96KHZ, 17 SDA/CDOUT/RCBL, 18 U/AD2/GPO2, 19 C/GPO1, 20 TX/GPO0, 21 VL, 22 DGND, 23 VD, 24 RMCK, 25 OMCK, 26 SDOUT, 27 OSCLK, 28 OLRCK

## CS8420
designator *  value CS8420  Reference: U
Digital Audio Sample Rate Converter, SOIC-28; ki_fp_filters: SOIC*7.5x17.9mm*P1.27mm*; Footprint: Package_SO:SOIC-28W_7.5x17.9mm_P1.27mm; Datasheet: https://d3uzseaevmutz1.cloudfront.net/pubs/proDatasheet/CS8420_F4.pdf; Description_: Digital Audio Sample Rate Converter, SOIC-28; ki_keywords: audio sample rate converter
pins: 1 SDA/CDOUT/COPY/C, 2 AD0/~{{CS}/DFC0}, 3 ~{{EMPH}/U/V}, 4 RXP/SMFT0, 5 RXN/SMFT1, 6 VA+, 7 AGND, 8 FILT, 9 ~{{RST}}, 10 RMCK/APMS, 11 RERR/~{{LOCK}/TBCLD}, 12 ILRCK/TCBLD/RCBL, 13 ISCLK/PRO/C, 14 SDIN/MUTE/CHS, 15 TCBL/NVERR, 16 OSCLK/CEN, 17 OLRCK/V, 18 SDOUT/U, 19 INT/~{{AUDIO}/V/CUVEN}, 20 U/S/~{{AES}/PRO/C}, 21 OMCK/APMS, 22 DGND, 23 VD+, 24 H/~{{S}}, 25 TXN/U, 26 TXP/C, 27 AD1/CDIN/DFC1, 28 SCL/CCLK/ORIG/U

## DSD1794A
designator *  value DSD1794A  Reference: U
24-Bit, 192-kHz Sampling, Advanced Segment, Audio Stereo Digital-to-Analog Converter, SW Control, SSOP-28; ki_keywords: audio dac 2ch 24bit 192kHz; ki_fp_filters: SSOP*5.3x10.2mm*P0.65mm*; Footprint: Package_SO:SSOP-28_5.3x10.2mm_P0.65mm; Datasheet: http://www.ti.com/lit/ds/symlink/dsd1794a.pdf; Description_: 24-Bit, 192-kHz Sampling, Advanced Segment, Audio Stereo Digital-to-Analog Converter, SW Control, SSOP-28
pins: 1 DSDL, 2 DSDR, 3 DBCK, 4 PLRCK, 5 PDATA, 6 PBK, 7 SCK, 8 DGND, 9 VDD, 10 ADR0, 11 ADR1, 12 SCL, 13 SDA, 14 ~{{RST}}, 15 VCC2R, 16 AGND3R, 17 IOUTR+, 18 IOUTR-, 19 AGND1, 20 IREF, 21 VCOMR, 22 VCOML, 23 VCC1, 24 AGND2, 25 IOUTL+, 26 IOUTL-, 27 AGND3L, 28 VCC2L

## ES8388
designator *  value ES8388  Reference: U
Low Power Stereo Audio CODEC With Headphone Amplifier, 24-bit, 8kHz - 96kHz ADC / DAC sampling frequency, 1.8V - 3.3V supply, WQFN-28; ki_keywords: i2s 2ch i2c spi dsp pcm; ki_fp_filters: *QFN*4x4mm*P0.45mm*EP2.6*x2.6*; Footprint: Package_DFN_QFN:QFN-28-1EP_4x4mm_P0.45mm_EP2.6x2.6mm; Datasheet: http://www.everest-semi.com/pdf/ES8388%20DS.pdf; Description_: Low Power Stereo Audio CODEC With Headphone Amplifier, 24-bit, 8kHz - 96kHz ADC / DAC sampling frequency, 1.8V - 3.3V supply, WQFN-28
pins: 1 MCLK, 2 DVDD, 3 PVDD, 4 DGND, 5 SCLK, 6 DSDIN, 7 LRCK, 8 ASDOUT, 9 NC, 10 VREF, 11 ROUT1, 12 LOUT1, 13 HPGND, 14 ROUT2, 15 LOUT2, 16 HPVDD, 17 AVDD, 18 AGND, 19 ADCVREF, 20 VMID, 21 RIN2, 22 LIN2, 23 RIN1, 24 LIN1, 25 NC, 26 CE, 27 CDATA, 28 CCLK, 29 EPAD

## ISD2560E
designator *  value ISD2560E  Reference: U
Single-Chip Voice Record/Playback Device 60-Second Duration, TSOP-I-28; ki_keywords: isd2560; ki_fp_filters: TSOP*11.8x8mm*P0.55mm*; Footprint: Package_SO:TSOP-I-28_11.8x8mm_P0.55mm; Datasheet: https://datasheetspdf.com/pdf-file/700027/Winbond/ISD2560/1; Description_: Single-Chip Voice Record/Playback Device 60-Second Duration, TSOP-I-28
pins: 1 A0/M0, 2 A1/M1, 3 A2/M2, 4 A3/M3, 5 A4/M4, 6 A5/M5, 7 A6/M6, 8 A7, 9 A8, 10 A9, 11 AUX_IN, 12 VSSD, 13 VSSA, 14 SP+, 15 SP-, 16 VCCA, 17 MIC, 18 MIC_REF, 19 AGC, 20 ANA_IN, 21 ANA_OUT, 22 ~{{OVF}}, 23 ~{{CE}}, 24 PD, 25 ~{{EOM}}, 26 XCLK, 27 P/~{{R}}, 28 VCCD

## ISD2560P
designator *  value ISD2560P  Reference: U
Single-Chip Voice Record/Playback Device 60-Second Duration, DIP-28; ki_keywords: isd2560; ki_fp_filters: DIP*W15.24mm*; Footprint: Package_DIP:DIP-28_W15.24mm; Datasheet: https://datasheetspdf.com/pdf-file/700027/Winbond/ISD2560/1; Description_: Single-Chip Voice Record/Playback Device 60-Second Duration, DIP-28
pins: 1 A0/M0, 2 A1/M1, 3 A2/M2, 4 A3/M3, 5 A4/M4, 6 A5/M5, 7 A6/M6, 8 A7, 9 A8, 10 A9, 11 AUX_IN, 12 VSSD, 13 VSSA, 14 SP+, 15 SP-, 16 VCCA, 17 MIC, 18 MIC_REF, 19 AGC, 20 ANA_IN, 21 ANA_OUT, 22 ~{{OVF}}, 23 ~{{CE}}, 24 PD, 25 ~{{EOM}}, 26 XCLK, 27 P/~{{R}}, 28 VCCD

## ISD2560S
designator *  value ISD2560S  Reference: U
Single-Chip Voice Record/Playback Device 60-Second Duration, SOIC-28; ki_keywords: isd2560; ki_fp_filters: SOIC*7.5x17.9mm*P1.27mm*; Footprint: Package_SO:SOIC-28W_7.5x17.9mm_P1.27mm; Datasheet: https://datasheetspdf.com/pdf-file/700027/Winbond/ISD2560/1; Description_: Single-Chip Voice Record/Playback Device 60-Second Duration, SOIC-28
pins: 1 A0/M0, 2 A1/M1, 3 A2/M2, 4 A3/M3, 5 A4/M4, 6 A5/M5, 7 A6/M6, 8 A7, 9 A8, 10 A9, 11 AUX_IN, 12 VSSD, 13 VSSA, 14 SP+, 15 SP-, 16 VCCA, 17 MIC, 18 MIC_REF, 19 AGC, 20 ANA_IN, 21 ANA_OUT, 22 ~{{OVF}}, 23 ~{{CE}}, 24 PD, 25 ~{{EOM}}, 26 XCLK, 27 P/~{{R}}, 28 VCCD

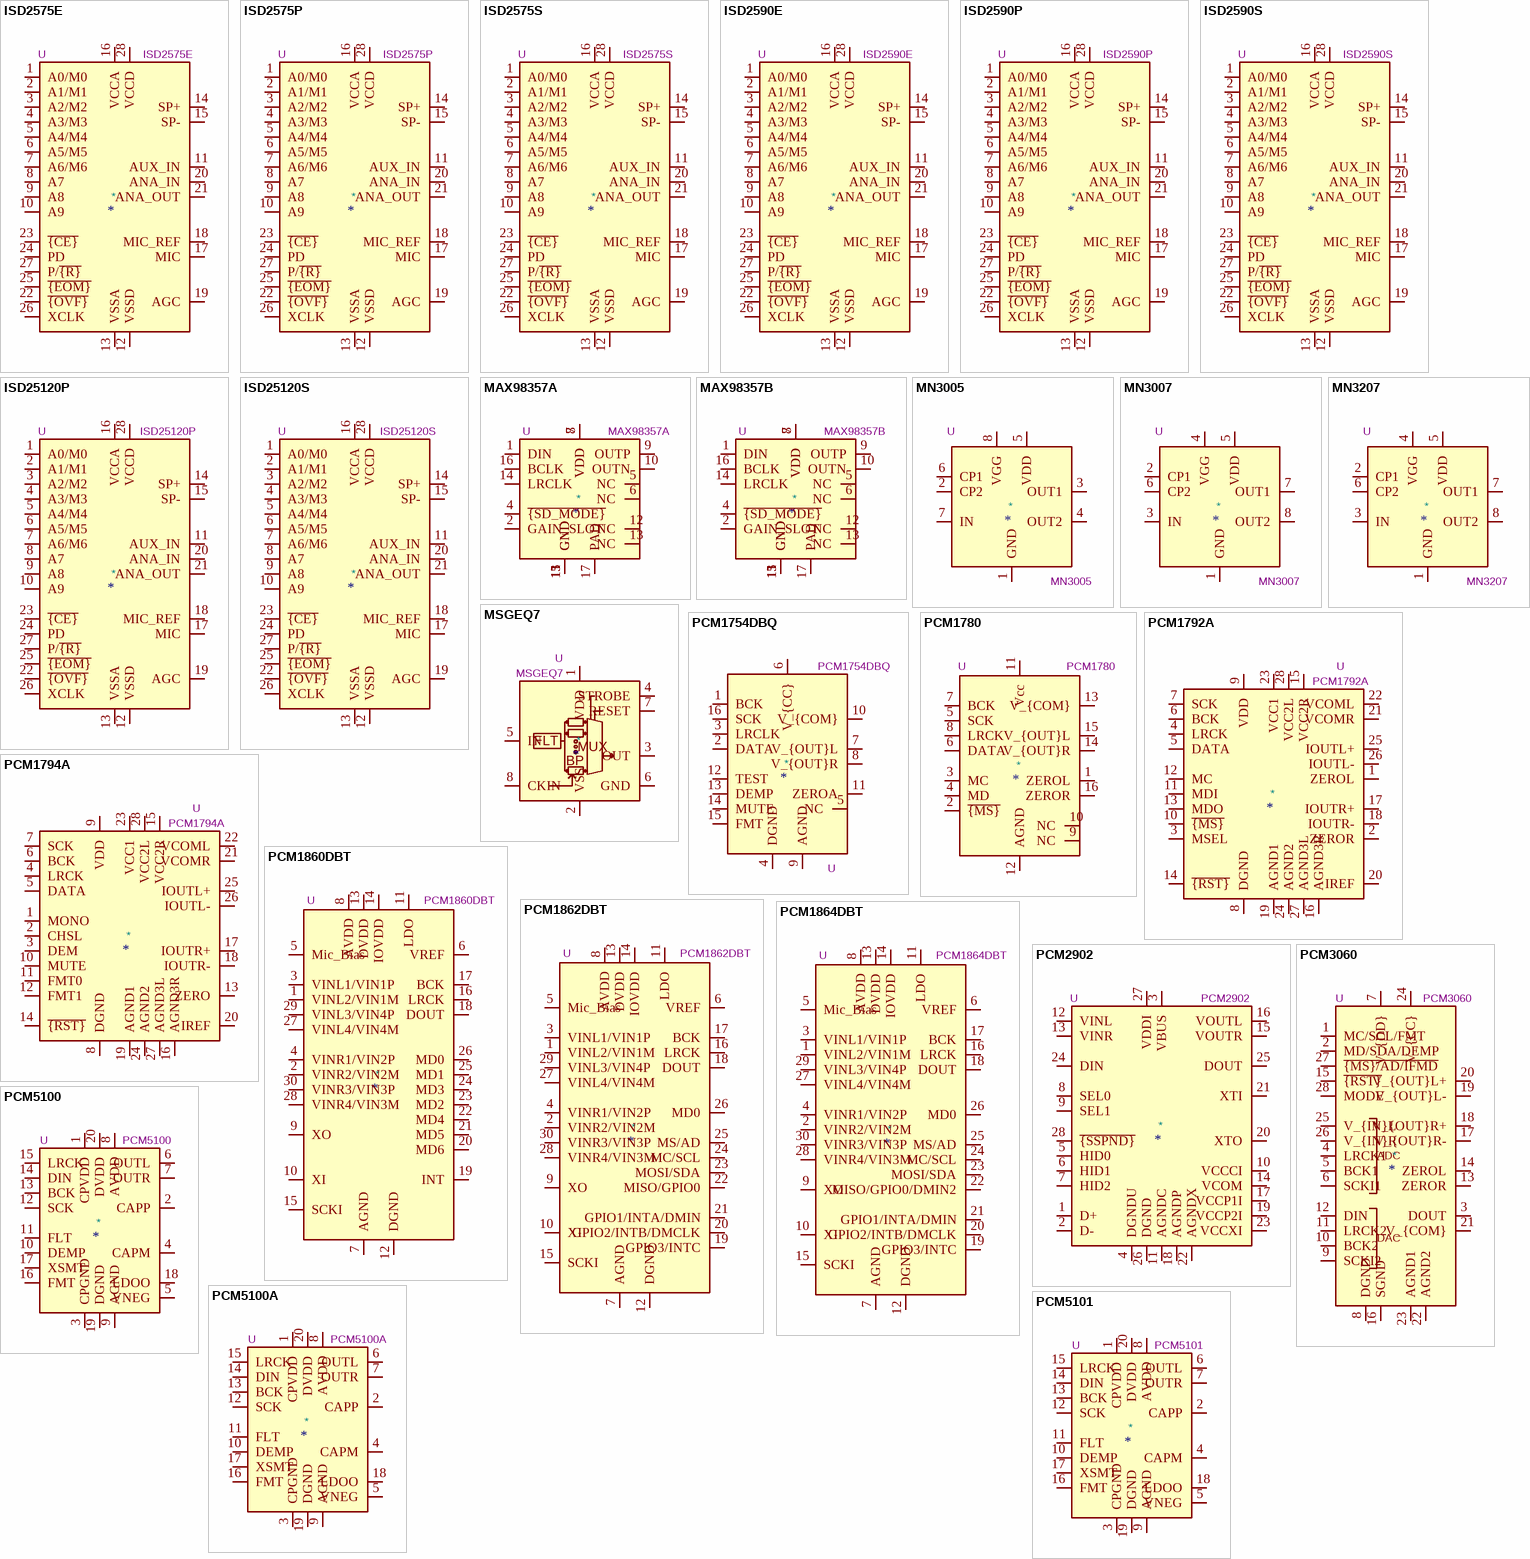
[diagram p2: symbols ISD2575E to PCM5101]

## ISD2575E
designator *  value ISD2575E  Reference: U
Single-Chip Voice Record/Playback Device 75-Second Duration, TSOP-I-28; ki_keywords: isd2575; ki_fp_filters: TSOP*11.8x8mm*P0.55mm*; Footprint: Package_SO:TSOP-I-28_11.8x8mm_P0.55mm; Datasheet: https://datasheetspdf.com/pdf-file/700027/Winbond/ISD2560/1; Description_: Single-Chip Voice Record/Playback Device 75-Second Duration, TSOP-I-28
pins: 1 A0/M0, 2 A1/M1, 3 A2/M2, 4 A3/M3, 5 A4/M4, 6 A5/M5, 7 A6/M6, 8 A7, 9 A8, 10 A9, 11 AUX_IN, 12 VSSD, 13 VSSA, 14 SP+, 15 SP-, 16 VCCA, 17 MIC, 18 MIC_REF, 19 AGC, 20 ANA_IN, 21 ANA_OUT, 22 ~{{OVF}}, 23 ~{{CE}}, 24 PD, 25 ~{{EOM}}, 26 XCLK, 27 P/~{{R}}, 28 VCCD

## ISD2575P
designator *  value ISD2575P  Reference: U
Single-Chip Voice Record/Playback Device 75-Second Duration, DIP-28; ki_keywords: isd2575; ki_fp_filters: DIP*W15.24mm*; Footprint: Package_DIP:DIP-28_W15.24mm; Datasheet: https://datasheetspdf.com/pdf-file/700027/Winbond/ISD2560/1; Description_: Single-Chip Voice Record/Playback Device 75-Second Duration, DIP-28
pins: 1 A0/M0, 2 A1/M1, 3 A2/M2, 4 A3/M3, 5 A4/M4, 6 A5/M5, 7 A6/M6, 8 A7, 9 A8, 10 A9, 11 AUX_IN, 12 VSSD, 13 VSSA, 14 SP+, 15 SP-, 16 VCCA, 17 MIC, 18 MIC_REF, 19 AGC, 20 ANA_IN, 21 ANA_OUT, 22 ~{{OVF}}, 23 ~{{CE}}, 24 PD, 25 ~{{EOM}}, 26 XCLK, 27 P/~{{R}}, 28 VCCD

## ISD2575S
designator *  value ISD2575S  Reference: U
Single-Chip Voice Record/Playback Device 75-Second Duration, SOIC-28; ki_keywords: isd2575; ki_fp_filters: SOIC*7.5x17.9mm*P1.27mm*; Footprint: Package_SO:SOIC-28W_7.5x17.9mm_P1.27mm; Datasheet: https://datasheetspdf.com/pdf-file/700027/Winbond/ISD2560/1; Description_: Single-Chip Voice Record/Playback Device 75-Second Duration, SOIC-28
pins: 1 A0/M0, 2 A1/M1, 3 A2/M2, 4 A3/M3, 5 A4/M4, 6 A5/M5, 7 A6/M6, 8 A7, 9 A8, 10 A9, 11 AUX_IN, 12 VSSD, 13 VSSA, 14 SP+, 15 SP-, 16 VCCA, 17 MIC, 18 MIC_REF, 19 AGC, 20 ANA_IN, 21 ANA_OUT, 22 ~{{OVF}}, 23 ~{{CE}}, 24 PD, 25 ~{{EOM}}, 26 XCLK, 27 P/~{{R}}, 28 VCCD

## ISD2590E
designator *  value ISD2590E  Reference: U
Single-Chip Voice Record/Playback Device 90-Second Duration, TSOP-I-28; ki_keywords: isd2590; ki_fp_filters: TSOP*11.8x8mm*P0.55mm*; Footprint: Package_SO:TSOP-I-28_11.8x8mm_P0.55mm; Datasheet: https://datasheetspdf.com/pdf-file/700027/Winbond/ISD2560/1; Description_: Single-Chip Voice Record/Playback Device 90-Second Duration, TSOP-I-28
pins: 1 A0/M0, 2 A1/M1, 3 A2/M2, 4 A3/M3, 5 A4/M4, 6 A5/M5, 7 A6/M6, 8 A7, 9 A8, 10 A9, 11 AUX_IN, 12 VSSD, 13 VSSA, 14 SP+, 15 SP-, 16 VCCA, 17 MIC, 18 MIC_REF, 19 AGC, 20 ANA_IN, 21 ANA_OUT, 22 ~{{OVF}}, 23 ~{{CE}}, 24 PD, 25 ~{{EOM}}, 26 XCLK, 27 P/~{{R}}, 28 VCCD

## ISD2590P
designator *  value ISD2590P  Reference: U
Single-Chip Voice Record/Playback Device 90-Second Duration, DIP-28; ki_keywords: isd2590; ki_fp_filters: DIP*W15.24mm*; Footprint: Package_DIP:DIP-28_W15.24mm; Datasheet: https://datasheetspdf.com/pdf-file/700027/Winbond/ISD2560/1; Description_: Single-Chip Voice Record/Playback Device 90-Second Duration, DIP-28
pins: 1 A0/M0, 2 A1/M1, 3 A2/M2, 4 A3/M3, 5 A4/M4, 6 A5/M5, 7 A6/M6, 8 A7, 9 A8, 10 A9, 11 AUX_IN, 12 VSSD, 13 VSSA, 14 SP+, 15 SP-, 16 VCCA, 17 MIC, 18 MIC_REF, 19 AGC, 20 ANA_IN, 21 ANA_OUT, 22 ~{{OVF}}, 23 ~{{CE}}, 24 PD, 25 ~{{EOM}}, 26 XCLK, 27 P/~{{R}}, 28 VCCD

## ISD2590S
designator *  value ISD2590S  Reference: U
Single-Chip Voice Record/Playback Device 90-Second Duration, SOIC-28; ki_keywords: isd2590; ki_fp_filters: SOIC*7.5x17.9mm*P1.27mm*; Footprint: Package_SO:SOIC-28W_7.5x17.9mm_P1.27mm; Datasheet: https://datasheetspdf.com/pdf-file/700027/Winbond/ISD2560/1; Description_: Single-Chip Voice Record/Playback Device 90-Second Duration, SOIC-28
pins: 1 A0/M0, 2 A1/M1, 3 A2/M2, 4 A3/M3, 5 A4/M4, 6 A5/M5, 7 A6/M6, 8 A7, 9 A8, 10 A9, 11 AUX_IN, 12 VSSD, 13 VSSA, 14 SP+, 15 SP-, 16 VCCA, 17 MIC, 18 MIC_REF, 19 AGC, 20 ANA_IN, 21 ANA_OUT, 22 ~{{OVF}}, 23 ~{{CE}}, 24 PD, 25 ~{{EOM}}, 26 XCLK, 27 P/~{{R}}, 28 VCCD

## ISD25120P
designator *  value ISD25120P  Reference: U
Single-Chip Voice Record/Playback Device 120-Second Duration, DIP-28; ki_keywords: isd25120; ki_fp_filters: DIP*W15.24mm*; Footprint: Package_DIP:DIP-28_W15.24mm; Datasheet: https://datasheetspdf.com/pdf-file/700027/Winbond/ISD2560/1; Description_: Single-Chip Voice Record/Playback Device 120-Second Duration, DIP-28
pins: 1 A0/M0, 2 A1/M1, 3 A2/M2, 4 A3/M3, 5 A4/M4, 6 A5/M5, 7 A6/M6, 8 A7, 9 A8, 10 A9, 11 AUX_IN, 12 VSSD, 13 VSSA, 14 SP+, 15 SP-, 16 VCCA, 17 MIC, 18 MIC_REF, 19 AGC, 20 ANA_IN, 21 ANA_OUT, 22 ~{{OVF}}, 23 ~{{CE}}, 24 PD, 25 ~{{EOM}}, 26 XCLK, 27 P/~{{R}}, 28 VCCD

## ISD25120S
designator *  value ISD25120S  Reference: U
Single-Chip Voice Record/Playback Device 120-Second Duration, SOIC-28; ki_keywords: isd25120; ki_fp_filters: SOIC*7.5x17.9mm*P1.27mm*; Footprint: Package_SO:SOIC-28W_7.5x17.9mm_P1.27mm; Datasheet: https://datasheetspdf.com/pdf-file/700027/Winbond/ISD2560/1; Description_: Single-Chip Voice Record/Playback Device 120-Second Duration, SOIC-28
pins: 1 A0/M0, 2 A1/M1, 3 A2/M2, 4 A3/M3, 5 A4/M4, 6 A5/M5, 7 A6/M6, 8 A7, 9 A8, 10 A9, 11 AUX_IN, 12 VSSD, 13 VSSA, 14 SP+, 15 SP-, 16 VCCA, 17 MIC, 18 MIC_REF, 19 AGC, 20 ANA_IN, 21 ANA_OUT, 22 ~{{OVF}}, 23 ~{{CE}}, 24 PD, 25 ~{{EOM}}, 26 XCLK, 27 P/~{{R}}, 28 VCCD

## MAX98357A
designator *  value MAX98357A  Reference: U
Mono DAC with amplifier, I2S, PCM, TDM, 32-bit, 96khz, 3.2W, TQFP-16; ki_keywords: pcm tdm i2s left-justified amplifier audio dac; ki_fp_filters: TQFN*3x3mm*P0.5mm*EP1.23x1.23mm*; Footprint: Package_DFN_QFN:TQFN-16-1EP_3x3mm_P0.5mm_EP1.23x1.23mm; Datasheet: https://www.analog.com/media/en/technical-documentation/data-sheets/MAX98357A-MAX98357B.pdf; Description_: Mono DAC with amplifier, I2S, PCM, TDM, 32-bit, 96khz, 3.2W, TQFP-16
pins: 1 DIN, 2 GAIN_SLOT, 3 GND, 4 ~{{SD_MODE}}, 5 NC, 6 NC, 7 VDD, 8 VDD, 9 OUTP, 10 OUTN, 11 GND, 12 NC, 13 NC, 14 LRCLK, 15 GND, 16 BCLK, 17 PAD

## MAX98357B
designator *  value MAX98357B  Reference: U
Mono DAC with amplifier, I2S, left-justified, TDM, 32-bit, 96khz, 3.2W, TQFP-16; ki_keywords: tdm i2s left-justified amplifier audio dac; ki_fp_filters: TQFN*3x3mm*P0.5mm*EP1.23x1.23mm*; Footprint: Package_DFN_QFN:TQFN-16-1EP_3x3mm_P0.5mm_EP1.23x1.23mm; Datasheet: https://www.analog.com/media/en/technical-documentation/data-sheets/MAX98357A-MAX98357B.pdf; Description_: Mono DAC with amplifier, I2S, left-justified, TDM, 32-bit, 96khz, 3.2W, TQFP-16
pins: 1 DIN, 2 GAIN_SLOT, 3 GND, 4 ~{{SD_MODE}}, 5 NC, 6 NC, 7 VDD, 8 VDD, 9 OUTP, 10 OUTN, 11 GND, 12 NC, 13 NC, 14 LRCLK, 15 GND, 16 BCLK, 17 PAD

## MN3005
designator *  value MN3005  Reference: U
4096-STAGE LONG DELAY BBD (bucket brigade device), delay time 20.48ms to 204.8ms, S/N 75dB, clock frequency range 10KHz to 100KHz; ki_keywords: Matsushita Panasonic BBD; ki_fp_filters: DIP-8*; Datasheet: http://www.experimentalistsanonymous.com/diy/Datasheets/MN3005.pdf; Description_: 4096-STAGE LONG DELAY BBD (bucket brigade device), delay time 20.48ms to 204.8ms, S/N 75dB, clock frequency range 10KHz to 100KHz
pins: 1 GND, 2 CP2, 3 OUT1, 4 OUT2, 5 VDD, 6 CP1, 7 IN, 8 VGG

## MN3007
designator *  value MN3007  Reference: U
1024-STAGE LOW NOISE BBD (bucket brigade device), delay time 5.12ms to 51.2ms, S/N 80dB, clock frequency range 10KHz to 100KHz; ki_keywords: Matsushita Panasonic BBD; ki_fp_filters: DIP-8*; Datasheet: http://www.experimentalistsanonymous.com/diy/Datasheets/MN3007.pdf; Description_: 1024-STAGE LOW NOISE BBD (bucket brigade device), delay time 5.12ms to 51.2ms, S/N 80dB, clock frequency range 10KHz to 100KHz
pins: 1 GND, 2 CP1, 3 IN, 4 VGG, 5 VDD, 6 CP2, 7 OUT1, 8 OUT2

## MN3207
designator *  value MN3207  Reference: U
1024-STAGE LOW VOLTAGE OPERATION LOW NOISE BBD (bucket brigade device), delay time 2.56ms to 51.2ms, S/N 73dB, clock frequency range 10KHz to 200KHz; ki_keywords: Matsushita Panasonic BBD; ki_fp_filters: DIP-8*; Datasheet: http://www.experimentalistsanonymous.com/diy/Datasheets/MN3207.pdf; Description_: 1024-STAGE LOW VOLTAGE OPERATION LOW NOISE BBD (bucket brigade device), delay time 2.56ms to 51.2ms, S/N 73dB, clock frequency range 10KHz to 200KHz
pins: 1 GND, 2 CP1, 3 IN, 4 VGG, 5 VDD, 6 CP2, 7 OUT1, 8 OUT2

## MSGEQ7
designator *  value MSGEQ7  Reference: U
Seven Band Graphic Equalizer, DIP-8/SOIC-8; ki_keywords: equalizer filter; ki_fp_filters: SOIC*3.9x4.9mm*P1.27mm* DIP*W7.62mm*; Datasheet: http://mix-sig.com/images/datasheets/MSGEQ7.pdf; Description_: Seven Band Graphic Equalizer, DIP-8/SOIC-8
pins: 1 VDD, 2 VSS, 3 OUT, 4 STROBE, 5 IN, 6 GND, 7 RESET, 8 CKIN
text: FLT; MUX; BP

## PCM1754DBQ
designator *  value PCM1754DBQ  Reference: U
24-bit, 192-kHz sampling, Stereo Audio DAC, SSOP-16; ki_keywords: audio dac 24-bit; ki_fp_filters: *SSOP*3.9x4.9mm*P0.635mm*; Footprint: Package_SO:SSOP-16_3.9x4.9mm_P0.635mm; Datasheet: https://www.ti.com/lit/ds/symlink/pcm1754.pdf; Description_: 24-bit, 192-kHz sampling, Stereo Audio DAC, SSOP-16
pins: 1 BCK, 2 DATA, 3 LRCLK, 4 DGND, 5 NC, 6 V_{CC}, 7 V_{OUT}L, 8 V_{OUT}R, 9 AGND, 10 V_{COM}, 11 ZEROA, 12 TEST, 13 DEMP, 14 MUTE, 15 FMT, 16 SCK

## PCM1780
designator *  value PCM1780  Reference: U
24-bit, 192-kHz sampling, Stereo Audio DAC, SSOP-16; ki_keywords: audio dac 24-bit; ki_fp_filters: *SSOP*3.9x4.9mm*P0.635mm*; Footprint: Package_SO:SSOP-16_3.9x4.9mm_P0.635mm; Datasheet: https://www.ti.com/lit/ds/symlink/pcm1780.pdf; Description_: 24-bit, 192-kHz sampling, Stereo Audio DAC, SSOP-16
pins: 1 ZEROL, 2 ~{{MS}}, 3 MC, 4 MD, 5 SCK, 6 DATA, 7 BCK, 8 LRCK, 9 NC, 10 NC, 11 Vcc, 12 AGND, 13 V_{COM}, 14 V_{OUT}R, 15 V_{OUT}L, 16 ZEROR

## PCM1792A
designator *  value PCM1792A  Reference: U
24-Bit, 192-kHz Sampling, Advanced Segment, Audio Stereo Digital-to-Analog Converter, SW Control, SSOP-28; ki_keywords: audio dac 2ch 24bit 192kHz; ki_fp_filters: SSOP*5.3x10.2mm*P0.65mm*; Footprint: Package_SO:SSOP-28_5.3x10.2mm_P0.65mm; Datasheet: http://www.ti.com/lit/ds/symlink/pcm1792a.pdf; Description_: 24-Bit, 192-kHz Sampling, Advanced Segment, Audio Stereo Digital-to-Analog Converter, SW Control, SSOP-28
pins: 1 ZEROL, 2 ZEROR, 3 MSEL, 4 LRCK, 5 DATA, 6 BCK, 7 SCK, 8 DGND, 9 VDD, 10 ~{{MS}}, 11 MDI, 12 MC, 13 MDO, 14 ~{{RST}}, 15 VCC2R, 16 AGND3R, 17 IOUTR+, 18 IOUTR-, 19 AGND1, 20 IREF, 21 VCOMR, 22 VCOML, 23 VCC1, 24 AGND2, 25 IOUTL+, 26 IOUTL-, 27 AGND3L, 28 VCC2L

## PCM1794A
designator *  value PCM1794A  Reference: U
24-Bit, 192-kHz Sampling, Advanced Segment, Audio Stereo Digital-to-Analog Converter, HW Control, SSOP-28; ki_keywords: audio dac 2ch 24bit 192kHz; ki_fp_filters: SSOP*5.3x10.2mm*P0.65mm*; Footprint: Package_SO:SSOP-28_5.3x10.2mm_P0.65mm; Datasheet: http://www.ti.com/lit/ds/symlink/pcm1794a.pdf; Description_: 24-Bit, 192-kHz Sampling, Advanced Segment, Audio Stereo Digital-to-Analog Converter, HW Control, SSOP-28
pins: 1 MONO, 2 CHSL, 3 DEM, 4 LRCK, 5 DATA, 6 BCK, 7 SCK, 8 DGND, 9 VDD, 10 MUTE, 11 FMT0, 12 FMT1, 13 ZERO, 14 ~{{RST}}, 15 VCC2R, 16 AGND3R, 17 IOUTR+, 18 IOUTR-, 19 AGND1, 20 IREF, 21 VCOMR, 22 VCOML, 23 VCC1, 24 AGND2, 25 IOUTL+, 26 IOUTL-, 27 AGND3L, 28 VCC2L

## PCM1860DBT
designator *  value PCM1860DBT  Reference: U
2-Channel, 192 kHz, 24-bit, Audio ADC, 103dB SNR, I2S / left-justified digital output formats, hardware control interface, TSSOP-30; ki_keywords: Texas-Instruments PCM PGA PLL audio-front-end analog-MUX energysense PCM1861DBT; ki_fp_filters: TSSOP*4.4x7.8mm*P0.5mm*; Footprint: Package_SO:TSSOP-30_4.4x7.8mm_P0.5mm; Datasheet: https://www.ti.com/lit/ds/symlink/pcm1860.pdf; Description_: 2-Channel, 192 kHz, 24-bit, Audio ADC, 103dB SNR, I2S / left-justified digital output formats, hardware control interface, TSSOP-30
pins: 1 VINL2/VIN1M, 2 VINR2/VIN2M, 3 VINL1/VIN1P, 4 VINR1/VIN2P, 5 Mic_Bias, 6 VREF, 7 AGND, 8 AVDD, 9 XO, 10 XI, 11 LDO, 12 DGND, 13 DVDD, 14 IOVDD, 15 SCKI, 16 LRCK, 17 BCK, 18 DOUT, 19 INT, 20 MD6, 21 MD5, 22 MD4, 23 MD2, 24 MD3, 25 MD1, 26 MD0, 27 VINL4/VIN4M, 28 VINR4/VIN3M, 29 VINL3/VIN4P, 30 VINR3/VIN3P

## PCM1862DBT
designator *  value PCM1862DBT  Reference: U
2-Channel, 192 kHz, 24-bit, Audio ADC, 103dB SNR, I2S / left/right-justified / TDM digital output formats, I2C / SPI control interface, 2 digital microphone support, TSSOP-30; ki_keywords: Texas-Instruments PCM PGA GPIO PLL audio-front-end analog-MUX mixer energysense PCM1863DBT; ki_fp_filters: TSSOP*4.4x7.8mm*P0.5mm*; Footprint: Package_SO:TSSOP-30_4.4x7.8mm_P0.5mm; Datasheet: https://www.ti.com/lit/ds/symlink/pcm1862.pdf; Description_: 2-Channel, 192 kHz, 24-bit, Audio ADC, 103dB SNR, I2S / left/right-justified / TDM digital output formats, I2C / SPI control interface, 2 digital microphone support, TSSOP-30
pins: 1 VINL2/VIN1M, 2 VINR2/VIN2M, 3 VINL1/VIN1P, 4 VINR1/VIN2P, 5 Mic_Bias, 6 VREF, 7 AGND, 8 AVDD, 9 XO, 10 XI, 11 LDO, 12 DGND, 13 DVDD, 14 IOVDD, 15 SCKI, 16 LRCK, 17 BCK, 18 DOUT, 19 GPIO3/INTC, 20 GPIO2/INTB/DMCLK, 21 GPIO1/INTA/DMIN, 22 MISO/GPIO0, 23 MOSI/SDA, 24 MC/SCL, 25 MS/AD, 26 MD0, 27 VINL4/VIN4M, 28 VINR4/VIN3M, 29 VINL3/VIN4P, 30 VINR3/VIN3P

## PCM1864DBT
designator *  value PCM1864DBT  Reference: U
4-Channel, 192 kHz, 24-bit, Audio ADC, 103dB SNR, I2S / left/right-justified / TDM digital output formats, I2C / SPI control interface, 4 digital microphone support (DMIN2 pin), TSSOP-30; ki_keywords: Texas-Instruments PCM PGA GPIO PLL audio-front-end analog-MUX mixer energysense PCM1865DBT; ki_fp_filters: TSSOP*4.4x7.8mm*P0.5mm*; Footprint: Package_SO:TSSOP-30_4.4x7.8mm_P0.5mm; Datasheet: https://www.ti.com/lit/ds/symlink/pcm1864.pdf; Description_: 4-Channel, 192 kHz, 24-bit, Audio ADC, 103dB SNR, I2S / left/right-justified / TDM digital output formats, I2C / SPI control interface, 4 digital microphone support (DMIN2 pin), TSSOP-30
pins: 1 VINL2/VIN1M, 2 VINR2/VIN2M, 3 VINL1/VIN1P, 4 VINR1/VIN2P, 5 Mic_Bias, 6 VREF, 7 AGND, 8 AVDD, 9 XO, 10 XI, 11 LDO, 12 DGND, 13 DVDD, 14 IOVDD, 15 SCKI, 16 LRCK, 17 BCK, 18 DOUT, 19 GPIO3/INTC, 20 GPIO2/INTB/DMCLK, 21 GPIO1/INTA/DMIN, 22 MISO/GPIO0/DMIN2, 23 MOSI/SDA, 24 MC/SCL, 25 MS/AD, 26 MD0, 27 VINL4/VIN4M, 28 VINR4/VIN3M, 29 VINL3/VIN4P, 30 VINR3/VIN3P

## PCM2902
designator *  value PCM2902  Reference: U
Stereo Audio Codec with USB interface, Analog Input/Output, and S/PDIF, SSOP-28; ki_keywords: pcm2902 usb audio; ki_fp_filters: SSOP*5.3x10.2mm*P0.65mm*; Footprint: Package_SO:SSOP-28_5.3x10.2mm_P0.65mm; Datasheet: http://www.ti.com/lit/ds/symlink/pcm2902c.pdf; Description_: Stereo Audio Codec with USB interface, Analog Input/Output, and S/PDIF, SSOP-28
pins: 1 D+, 2 D-, 3 VBUS, 4 DGNDU, 5 HID0, 6 HID1, 7 HID2, 8 SEL0, 9 SEL1, 10 VCCCI, 11 AGNDC, 12 VINL, 13 VINR, 14 VCOM, 15 VOUTR, 16 VOUTL, 17 VCCP1I, 18 AGNDP, 19 VCCP2I, 20 XTO, 21 XTI, 22 AGNDX, 23 VCCXI, 24 DIN, 25 DOUT, 26 DGND, 27 VDDI, 28 ~{{SSPND}}

## PCM3060
designator *  value PCM3060  Reference: U
24-bit Asynchronous Stereo Audio Codec with 96/192kHz sampling rate, TSSOP-28; ki_keywords: audio codec 2ch 24bit 192kHz; ki_fp_filters: TSSOP*4.4x9.7mm*P0.65mm*; Footprint: Package_SO:TSSOP-28_4.4x9.7mm_P0.65mm; Datasheet: https://www.ti.com/lit/gpn/pcm3060; Description_: 24-bit Asynchronous Stereo Audio Codec with 96/192kHz sampling rate, TSSOP-28
pins: 1 MC/SCL/FMT, 2 MD/SDA/DEMP, 3 DOUT, 4 LRCK1, 5 BCK1, 6 SCKI1, 7 V_{DD}, 8 DGND, 9 SCKI2, 10 BCK2, 11 LRCK2, 12 DIN, 13 ZEROR, 14 ZEROL, 15 ~{{RST}}, 16 SGND, 17 V_{OUT}R-, 18 V_{OUT}R+, 19 V_{OUT}L-, 20 V_{OUT}L+, 21 V_{COM}, 22 AGND2, 23 AGND1, 24 V_{CC}, 25 V_{IN}L, 26 V_{IN}R, 27 ~{{MS}/AD/IFMD}, 28 MODE
text: ADC; DAC

## PCM5100
designator *  value PCM5100  Reference: U
2VRMS DirectPath, 100dB Audio Stereo DAC with 32-bit, 384kHz PCM Interface, TSSOP-20; ki_keywords: audio dac 2ch 32bit 384kHz; ki_fp_filters: TSSOP*4.4x6.5mm*P0.65mm*; Footprint: Package_SO:TSSOP-20_4.4x6.5mm_P0.65mm; Datasheet: http://www.ti.com/lit/ds/symlink/pcm5100.pdf; Description_: 2VRMS DirectPath, 100dB Audio Stereo DAC with 32-bit, 384kHz PCM Interface, TSSOP-20
pins: 1 CPVDD, 2 CAPP, 3 CPGND, 4 CAPM, 5 VNEG, 6 OUTL, 7 OUTR, 8 AVDD, 9 AGND, 10 DEMP, 11 FLT, 12 SCK, 13 BCK, 14 DIN, 15 LRCK, 16 FMT, 17 XSMT, 18 LDOO, 19 DGND, 20 DVDD

## PCM5100A
designator *  value PCM5100A  Reference: U
2.1 VRMS, 100dB Audio Stereo DAC with PLL and 32-bit, 384kHz PCM Interface, TSSOP-20; ki_keywords: audio dac 2ch 32bit 384kHz; ki_fp_filters: TSSOP*4.4x6.5mm*P0.65mm*; Footprint: Package_SO:TSSOP-20_4.4x6.5mm_P0.65mm; Datasheet: https://www.ti.com/lit/ds/symlink/pcm5100a.pdf; Description_: 2.1 VRMS, 100dB Audio Stereo DAC with PLL and 32-bit, 384kHz PCM Interface, TSSOP-20
pins: 1 CPVDD, 2 CAPP, 3 CPGND, 4 CAPM, 5 VNEG, 6 OUTL, 7 OUTR, 8 AVDD, 9 AGND, 10 DEMP, 11 FLT, 12 SCK, 13 BCK, 14 DIN, 15 LRCK, 16 FMT, 17 XSMT, 18 LDOO, 19 DGND, 20 DVDD

## PCM5101
designator *  value PCM5101  Reference: U
2VRMS DirectPath, 106dB Audio Stereo DAC with 32-bit, 384kHz PCM Interface, TSSOP-20; ki_keywords: audio dac 2ch 32bit 384kHz; ki_fp_filters: TSSOP*4.4x6.5mm*P0.65mm*; Footprint: Package_SO:TSSOP-20_4.4x6.5mm_P0.65mm; Datasheet: http://www.ti.com/lit/ds/symlink/pcm5101.pdf; Description_: 2VRMS DirectPath, 106dB Audio Stereo DAC with 32-bit, 384kHz PCM Interface, TSSOP-20
pins: 1 CPVDD, 2 CAPP, 3 CPGND, 4 CAPM, 5 VNEG, 6 OUTL, 7 OUTR, 8 AVDD, 9 AGND, 10 DEMP, 11 FLT, 12 SCK, 13 BCK, 14 DIN, 15 LRCK, 16 FMT, 17 XSMT, 18 LDOO, 19 DGND, 20 DVDD

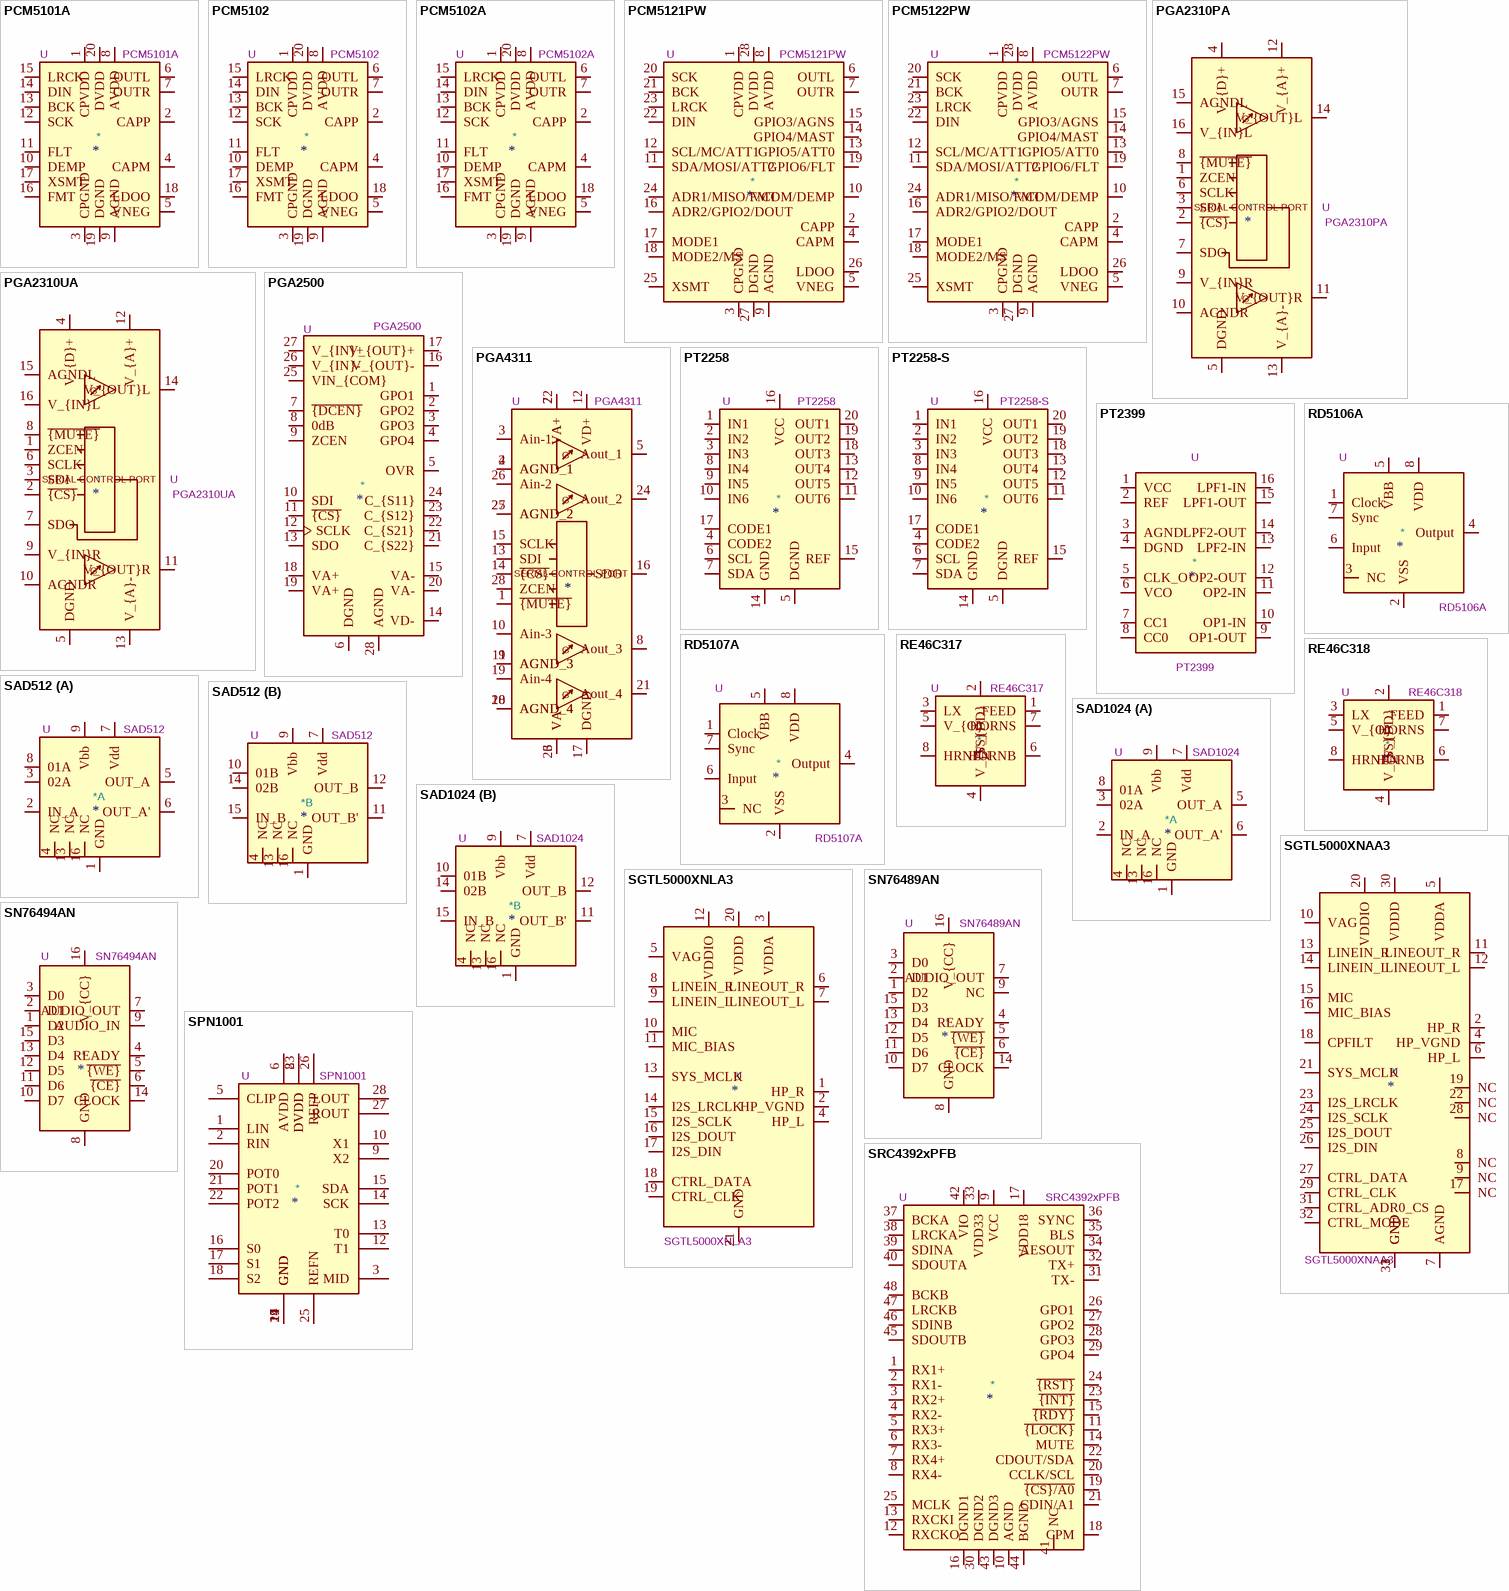
[diagram p3: symbols PCM5101A to SRC4392xPFB]

## PCM5101A
designator *  value PCM5101A  Reference: U
2.1 VRMS, 106dB Audio Stereo DAC with PLL and 32-bit, 384kHz PCM Interface, TSSOP-20; ki_keywords: audio dac 2ch 32bit 384kHz; ki_fp_filters: TSSOP*4.4x6.5mm*P0.65mm*; Footprint: Package_SO:TSSOP-20_4.4x6.5mm_P0.65mm; Datasheet: https://www.ti.com/lit/ds/symlink/pcm5101a.pdf; Description_: 2.1 VRMS, 106dB Audio Stereo DAC with PLL and 32-bit, 384kHz PCM Interface, TSSOP-20
pins: 1 CPVDD, 2 CAPP, 3 CPGND, 4 CAPM, 5 VNEG, 6 OUTL, 7 OUTR, 8 AVDD, 9 AGND, 10 DEMP, 11 FLT, 12 SCK, 13 BCK, 14 DIN, 15 LRCK, 16 FMT, 17 XSMT, 18 LDOO, 19 DGND, 20 DVDD

## PCM5102
designator *  value PCM5102  Reference: U
2VRMS DirectPath, 112dB Audio Stereo DAC with 32-bit, 384kHz PCM Interface, TSSOP-20; ki_keywords: audio dac 2ch 32bit 384kHz; ki_fp_filters: TSSOP*4.4x6.5mm*P0.65mm*; Footprint: Package_SO:TSSOP-20_4.4x6.5mm_P0.65mm; Datasheet: http://www.ti.com/lit/ds/symlink/pcm5102.pdf; Description_: 2VRMS DirectPath, 112dB Audio Stereo DAC with 32-bit, 384kHz PCM Interface, TSSOP-20
pins: 1 CPVDD, 2 CAPP, 3 CPGND, 4 CAPM, 5 VNEG, 6 OUTL, 7 OUTR, 8 AVDD, 9 AGND, 10 DEMP, 11 FLT, 12 SCK, 13 BCK, 14 DIN, 15 LRCK, 16 FMT, 17 XSMT, 18 LDOO, 19 DGND, 20 DVDD

## PCM5102A
designator *  value PCM5102A  Reference: U
2.1 VRMS, 112dB Audio Stereo DAC with PLL and 32-bit, 384kHz PCM Interface, TSSOP-20; ki_keywords: audio dac 2ch 32bit 384kHz; ki_fp_filters: TSSOP*4.4x6.5mm*P0.65mm*; Footprint: Package_SO:TSSOP-20_4.4x6.5mm_P0.65mm; Datasheet: https://www.ti.com/lit/ds/symlink/pcm5102a.pdf; Description_: 2.1 VRMS, 112dB Audio Stereo DAC with PLL and 32-bit, 384kHz PCM Interface, TSSOP-20
pins: 1 CPVDD, 2 CAPP, 3 CPGND, 4 CAPM, 5 VNEG, 6 OUTL, 7 OUTR, 8 AVDD, 9 AGND, 10 DEMP, 11 FLT, 12 SCK, 13 BCK, 14 DIN, 15 LRCK, 16 FMT, 17 XSMT, 18 LDOO, 19 DGND, 20 DVDD

## PCM5121PW
designator *  value PCM5121PW  Reference: U
2VRMS DirectPath, 106dB Audio Stereo DAC with 32-bit, 384kHz PCM Interface, TSSOP-28; ki_keywords: audio dac 2ch 32bit 384kHz; ki_fp_filters: TSSOP*4.4x9.7mm*P0.65mm*; Footprint: Package_SO:TSSOP-28_4.4x9.7mm_P0.65mm; Datasheet: http://www.ti.com/lit/ds/symlink/pcm5121.pdf; Description_: 2VRMS DirectPath, 106dB Audio Stereo DAC with 32-bit, 384kHz PCM Interface, TSSOP-28
pins: 1 CPVDD, 2 CAPP, 3 CPGND, 4 CAPM, 5 VNEG, 6 OUTL, 7 OUTR, 8 AVDD, 9 AGND, 10 VCOM/DEMP, 11 SDA/MOSI/ATT2, 12 SCL/MC/ATT1, 13 GPIO5/ATT0, 14 GPIO4/MAST, 15 GPIO3/AGNS, 16 ADR2/GPIO2/DOUT, 17 MODE1, 18 MODE2/MS, 19 GPIO6/FLT, 20 SCK, 21 BCK, 22 DIN, 23 LRCK, 24 ADR1/MISO/FMT, 25 XSMT, 26 LDOO, 27 DGND, 28 DVDD

## PCM5122PW
designator *  value PCM5122PW  Reference: U
2VRMS DirectPath, 112dB Audio Stereo DAC with 32-bit, 384kHz PCM Interface, TSSOP-28; ki_keywords: audio dac 2ch 32bit 384kHz; ki_fp_filters: TSSOP*4.4x9.7mm*P0.65mm*; Footprint: Package_SO:TSSOP-28_4.4x9.7mm_P0.65mm; Datasheet: http://www.ti.com/lit/ds/symlink/pcm5122.pdf; Description_: 2VRMS DirectPath, 112dB Audio Stereo DAC with 32-bit, 384kHz PCM Interface, TSSOP-28
pins: 1 CPVDD, 2 CAPP, 3 CPGND, 4 CAPM, 5 VNEG, 6 OUTL, 7 OUTR, 8 AVDD, 9 AGND, 10 VCOM/DEMP, 11 SDA/MOSI/ATT2, 12 SCL/MC/ATT1, 13 GPIO5/ATT0, 14 GPIO4/MAST, 15 GPIO3/AGNS, 16 ADR2/GPIO2/DOUT, 17 MODE1, 18 MODE2/MS, 19 GPIO6/FLT, 20 SCK, 21 BCK, 22 DIN, 23 LRCK, 24 ADR1/MISO/FMT, 25 XSMT, 26 LDOO, 27 DGND, 28 DVDD

## PGA2310PA
designator *  value PGA2310PA  Reference: U
2-Channel Audio Volume Control, SPI Interface, +31.5dB to -95.5dB, PDIP-16; ki_keywords: audio volume control 2ch spi; ki_fp_filters: DIP*16*W7.62mm*; Footprint: Package_DIP:DIP-16_W7.62mm; Datasheet: https://www.ti.com.cn/cn/lit/gpn/pga2310; Description_: 2-Channel Audio Volume Control, SPI Interface, +31.5dB to -95.5dB, PDIP-16
pins: 1 ZCEN, 2 ~{{CS}}, 3 SDI, 4 V_{D}+, 5 DGND, 6 SCLK, 7 SDO, 8 ~{{MUTE}}, 9 V_{IN}R, 10 AGNDR, 11 V_{OUT}R, 12 V_{A}+, 13 V_{A}-, 14 V_{OUT}L, 15 AGNDL, 16 V_{IN}L
text: G; SERIAL CONTROL PORT